# Altium integrated library Lattice CPLD ispMACH.IntLib: 663 symbols (part 13 of 48)
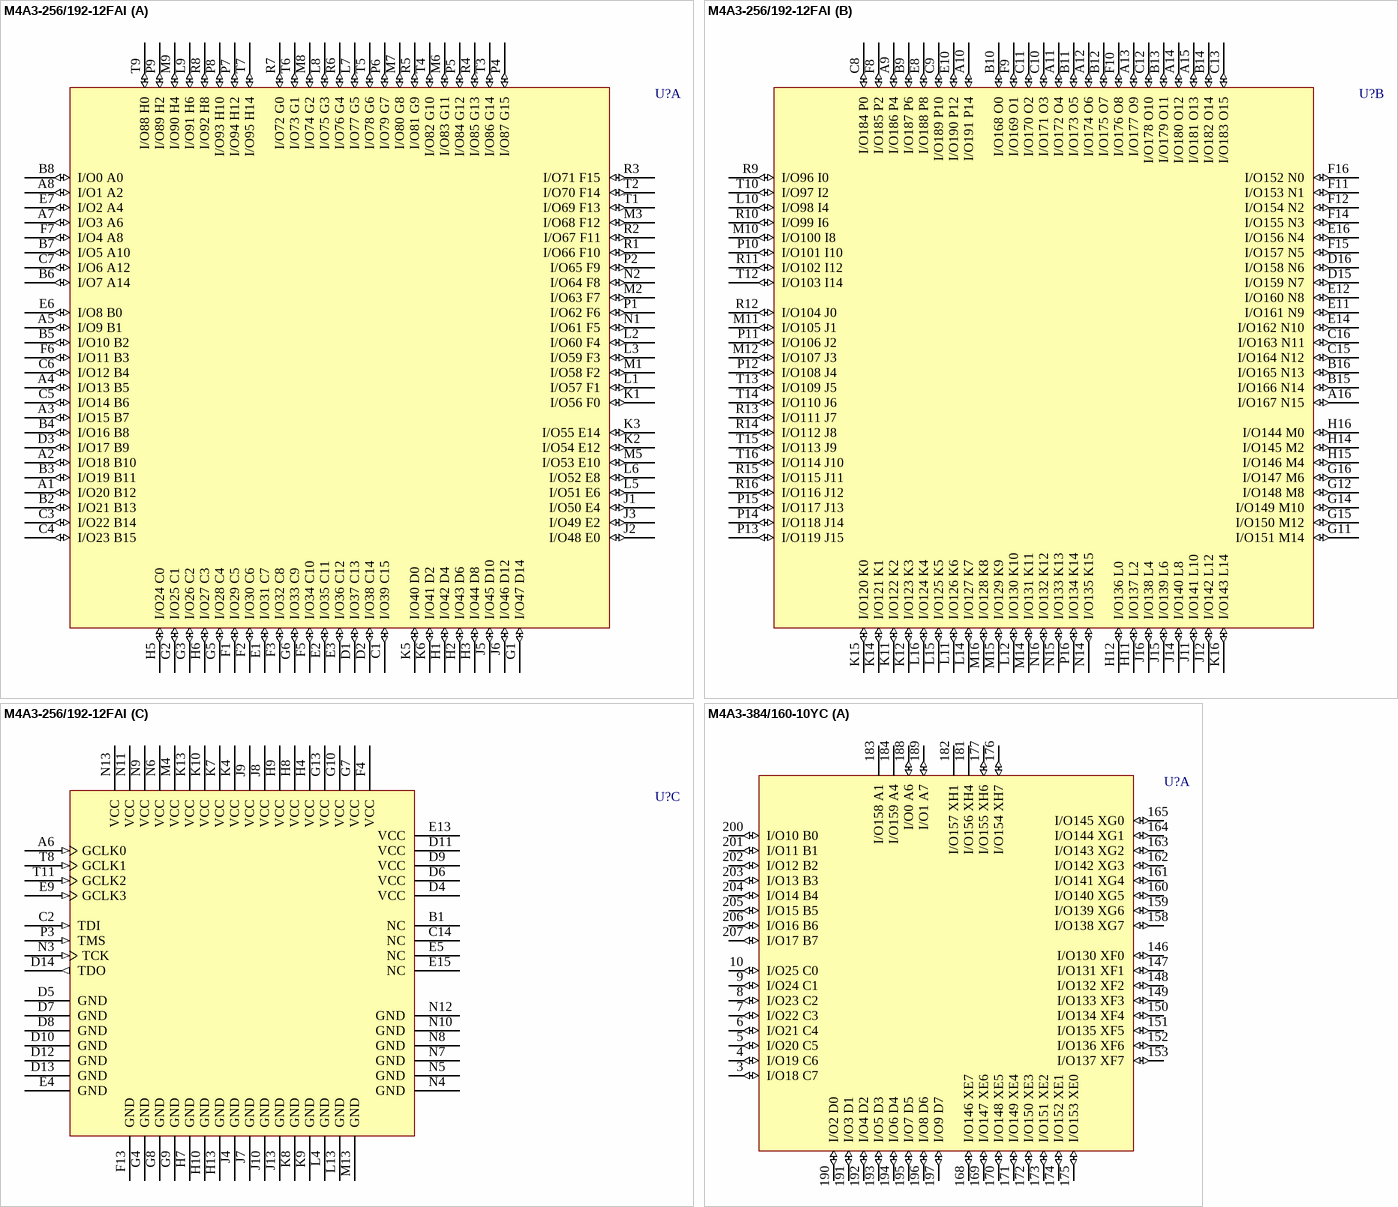
[diagram p318: symbols M4A3-256/192-12FAI to M4A3-384/160-10YC]

## M4A3-256/192-12FAI
designator U?
High-Performance EE CMOS In-System Programmable Logic; Published: 17-Jul-2002; LatestRevisionDate: 13-Apr-2006; LatestRevisionNote: IPC-7351 Footprint Added.; DatasheetVersion: Feb-2001; PackageVersion: pkg_32, Aug-2005; PackageReference: fpBGA256; Publisher: Altium Limited; PackageDescription: 256-Ball Fine Pitch Ball Grid Array (fpBGA256); Code_IPC: BGA100P16X16-256; ComponentLink1Description: Manufacturer Link; ComponentLink1URL: http://www.latticesemi.com/products/mature/index.cfm; ComponentLink2Description: Datasheet; ComponentLink2URL: http://www.latticesemi.com/account/_download.cfm?AMID=1344
footprint fpBGA256 (BGA, 256-Leads, Body 17x17mm, Pitch 1mm)
3D model M4A3-fpBGA256 (256-Ball Fine Pitch Ball Grid Array (fpBGA256))
part A pins: A1 I/O20 B12 (io), A2 I/O18 B10 (io), A3 I/O15 B7 (io), A4 I/O13 B5 (io), A5 I/O9 B1 (io), A7 I/O3 A6 (io), A8 I/O1 A2 (io), B2 I/O21 B13 (io), B3 I/O19 B11 (io), B4 I/O16 B8 (io), B5 I/O10 B2 (io), B6 I/O7 A14 (io), B7 I/O5 A10 (io), B8 I/O0 A0 (io), C1 I/O39 C15 (io), C3 I/O22 B14 (io), C4 I/O23 B15 (io), C5 I/O14 B6 (io), C6 I/O12 B4 (io), C7 I/O6 A12 (io), D1 I/O37 C13 (io), D2 I/O38 C14 (io), D3 I/O17 B9 (io), E1 I/O31 C7 (io), E2 I/O35 C11 (io), E3 I/O36 C12 (io), E6 I/O8 B0 (io), E7 I/O2 A4 (io), F1 I/O29 C5 (io), F2 I/O30 C6 (io), F3 I/O32 C8 (io), F5 I/O34 C10 (io), F6 I/O11 B3 (io), F7 I/O4 A8 (io), G1 I/O47 D14 (io), G2 I/O25 C1 (io), G3 I/O26 C2 (io), G5 I/O28 C4 (io), G6 I/O33 C9 (io), H1 I/O42 D4 (io), H2 I/O43 D6 (io), H3 I/O44 D8 (io), H5 I/O24 C0 (io), H6 I/O27 C3 (io), J1 I/O50 E4 (io), J2 I/O48 E0 (io), J3 I/O49 E2 (io), J5 I/O45 D10 (io), J6 I/O46 D12 (io), K1 I/O56 F0 (io), K2 I/O54 E12 (io), K3 I/O55 E14 (io), K5 I/O40 D0 (io), K6 I/O41 D2 (io), L1 I/O57 F1 (io), L2 I/O60 F4 (io), L3 I/O59 F3 (io), L5 I/O51 E6 (io), L6 I/O52 E8 (io), L7 I/O77 G5 (io), L8 I/O75 G3 (io), L9 I/O91 H6 (io), M1 I/O58 F2 (io), M2 I/O63 F7 (io), M3 I/O68 F12 (io), M5 I/O53 E10 (io), M6 I/O83 G11 (io), M7 I/O80 G8 (io), M8 I/O74 G2 (io), M9 I/O90 H4 (io), N1 I/O61 F5 (io), N2 I/O64 F8 (io), P1 I/O62 F6 (io), P2 I/O65 F9 (io), P4 I/O87 G15 (io), P5 I/O84 G12 (io), P6 I/O79 G7 (io), P7 I/O94 H12 (io), P8 I/O93 H10 (io), P9 I/O89 H2 (io), R1 I/O66 F10 (io), R2 I/O67 F11 (io), R3 I/O71 F15 (io), R4 I/O85 G13 (io), R5 I/O81 G9 (io), R6 I/O76 G4 (io), R7 I/O72 G0 (io), R8 I/O92 H8 (io), T1 I/O69 F13 (io), T2 I/O70 F14 (io), T3 I/O86 G14 (io), T4 I/O82 G10 (io), T5 I/O78 G6 (io), T6 I/O73 G1 (io), T7 I/O95 H14 (io), T9 I/O88 H0 (io)
part B pins: A9 I/O186 P4 (io), A10 I/O191 P14 (io), A11 I/O172 O4 (io), A12 I/O174 O6 (io), A13 I/O177 O9 (io), A14 I/O180 O12 (io), A15 I/O181 O13 (io), A16 I/O167 N15 (io), B9 I/O187 P6 (io), B10 I/O168 O0 (io), B11 I/O173 O5 (io), B12 I/O175 O7 (io), B13 I/O179 O11 (io), B14 I/O182 O14 (io), B15 I/O166 N14 (io), B16 I/O165 N13 (io), C8 I/O184 P0 (io), C9 I/O189 P10 (io), C10 I/O171 O3 (io), C11 I/O170 O2 (io), C12 I/O178 O10 (io), C13 I/O183 O15 (io), C15 I/O164 N12 (io), C16 I/O163 N11 (io), D15 I/O159 N7 (io), D16 I/O158 N6 (io), E8 I/O188 P8 (io), E10 I/O190 P12 (io), E11 I/O161 N9 (io), E12 I/O160 N8 (io), E14 I/O162 N10 (io), E16 I/O156 N4 (io), F8 I/O185 P2 (io), F9 I/O169 O1 (io), F10 I/O176 O8 (io), F11 I/O153 N1 (io), F12 I/O154 N2 (io), F14 I/O155 N3 (io), F15 I/O157 N5 (io), F16 I/O152 N0 (io), G11 I/O151 M14 (io), G12 I/O148 M8 (io), G14 I/O149 M10 (io), G15 I/O150 M12 (io), G16 I/O147 M6 (io), H11 I/O137 L2 (io), H12 I/O136 L0 (io), H14 I/O145 M2 (io), H15 I/O146 M4 (io), H16 I/O144 M0 (io), J11 I/O141 L10 (io), J12 I/O142 L12 (io), J14 I/O140 L8 (io), J15 I/O139 L6 (io), J16 I/O138 L4 (io), K11 I/O122 K2 (io), K12 I/O123 K3 (io), K14 I/O121 K1 (io), K15 I/O120 K0 (io), K16 I/O143 L14 (io), L10 I/O98 I4 (io), L11 I/O126 K6 (io), L12 I/O130 K10 (io), L14 I/O127 K7 (io), L15 I/O125 K5 (io), L16 I/O124 K4 (io), M10 I/O100 I8 (io), M11 I/O105 J1 (io), M12 I/O107 J3 (io), M14 I/O131 K11 (io), M15 I/O129 K9 (io), M16 I/O128 K8 (io), N14 I/O135 K15 (io), N15 I/O133 K13 (io), N16 I/O132 K12 (io), P10 I/O101 I10 (io), P11 I/O106 J2 (io), P12 I/O108 J4 (io), P13 I/O119 J15 (io), P14 I/O118 J14 (io), P15 I/O117 J13 (io), P16 I/O134 K14 (io), R9 I/O96 I0 (io), R10 I/O99 I6 (io), R11 I/O102 I12 (io), R12 I/O104 J0 (io), R13 I/O111 J7 (io), R14 I/O112 J8 (io), R15 I/O115 J11 (io), R16 I/O116 J12 (io), T10 I/O97 I2 (io), T12 I/O103 I14 (io), T13 I/O109 J5 (io), T14 I/O110 J6 (io), T15 I/O113 J9 (io), T16 I/O114 J10 (io)
part C pins: A6 GCLK0 (in), B1 NC, C2 TDI (in), C14 NC, D4 VCC (power), D5 GND (power), D6 VCC (power), D7 GND (power), D8 GND (power), D9 VCC (power), D10 GND (power), D11 VCC (power), D12 GND (power), D13 GND (power), D14 TDO (out), E4 GND (power), E5 NC, E9 GCLK3 (in), E13 VCC (power), E15 NC, F4 VCC (power), F13 GND (power), G4 GND (power), G7 VCC (power), G8 GND (power), G9 GND (power), G10 VCC (power), G13 VCC (power), H4 VCC (power), H7 GND (power), H8 VCC (power), H9 VCC (power), H10 GND (power), H13 GND (power), J4 GND (power), J7 GND (power), J8 VCC (power), J9 VCC (power), J10 GND (power), J13 GND (power), K4 VCC (power), K7 VCC (power), K8 GND (power), K9 GND (power), K10 VCC (power), K13 VCC (power), L4 GND (power), L13 GND (power), M4 VCC (power), M13 GND (power), N3 TCK (in), N4 GND (power), N5 GND (power), N6 VCC (power), N7 GND (power), N8 GND (power), N9 VCC (power), N10 GND (power), N11 VCC (power), N12 GND (power), N13 VCC (power), P3 TMS (in), T8 GCLK1 (in), T11 GCLK2 (in)

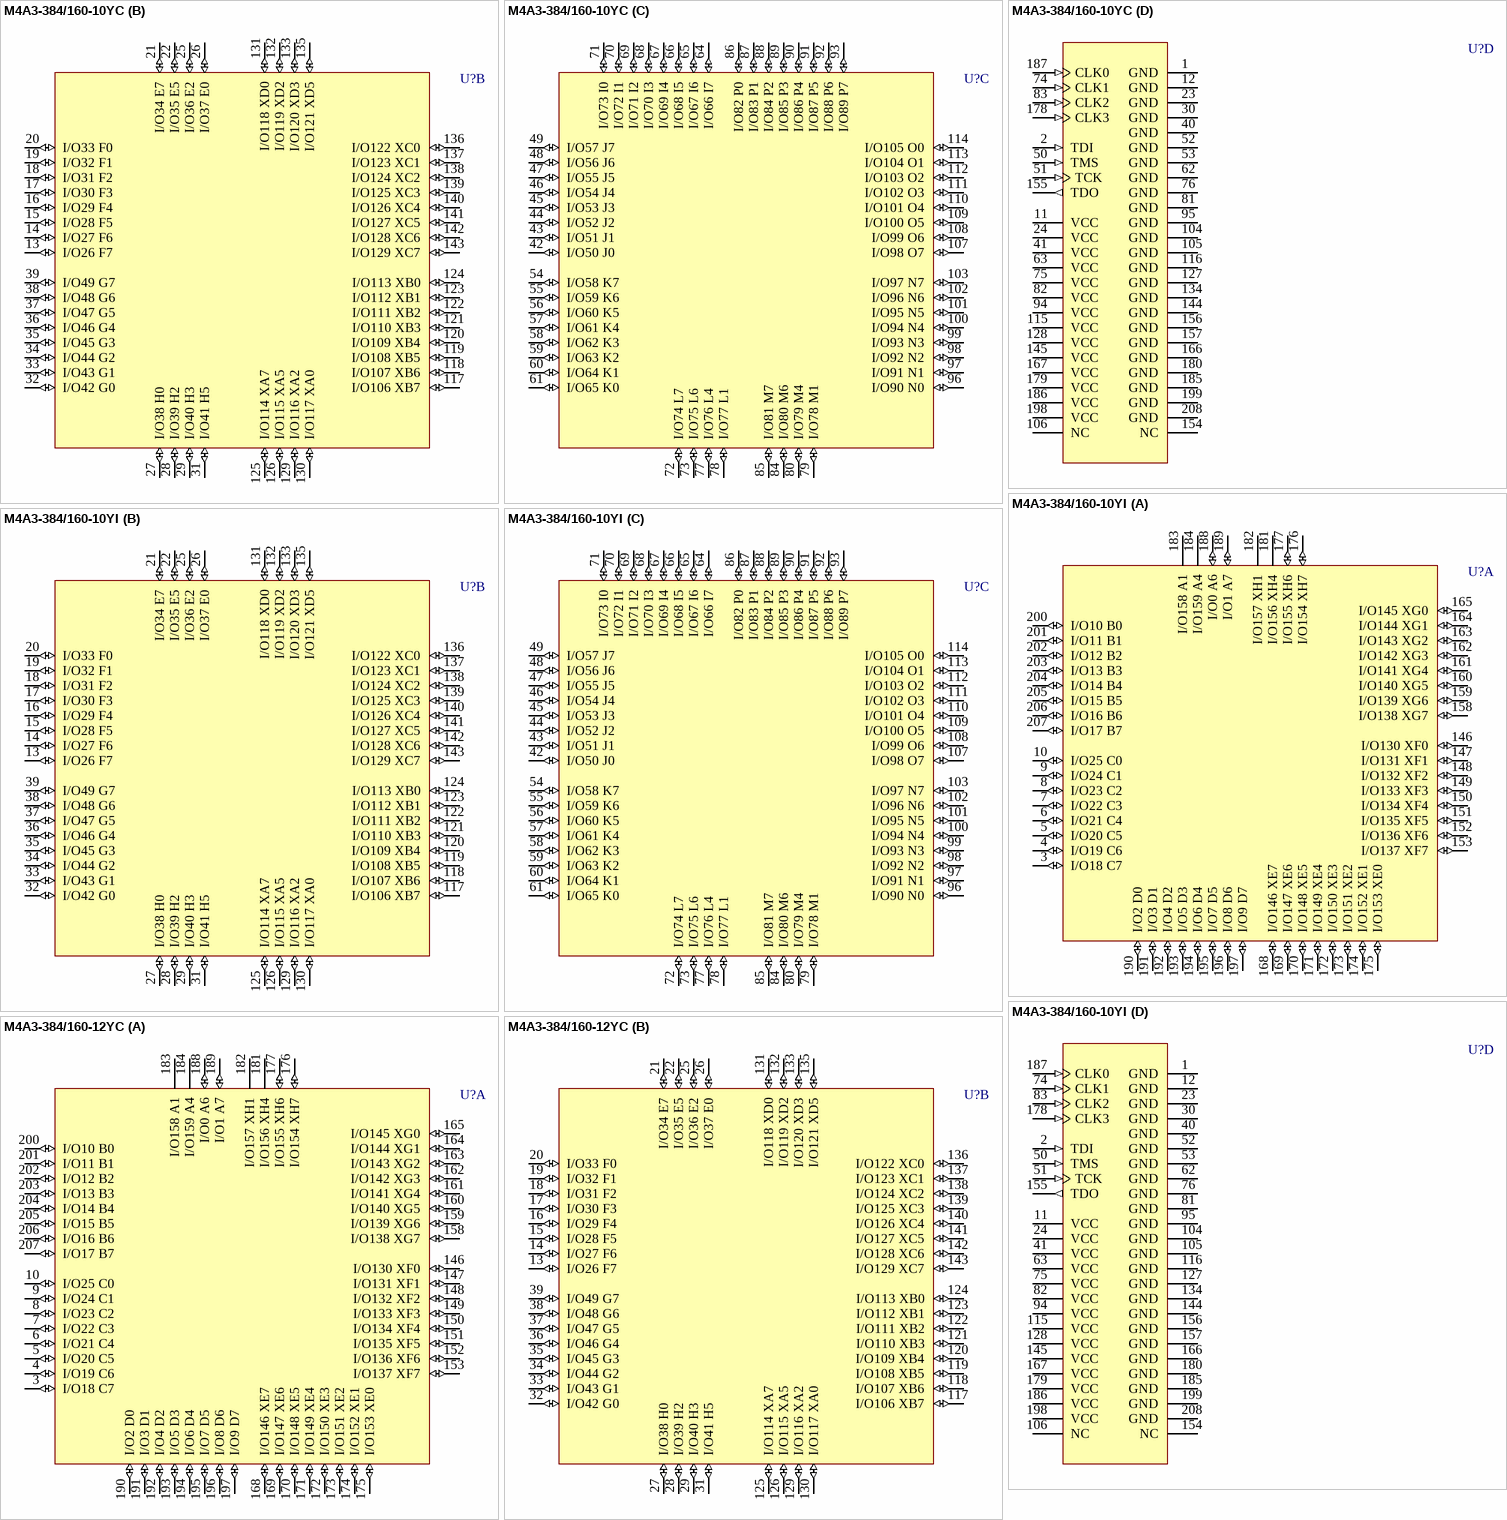
[diagram p76: symbols M4A3-384/160-10YC to M4A3-384/160-12YC]

## M4A3-384/160-10YC
designator U?
High-Performance EE CMOS In-System Programmable Logic; Published: 17-Jul-2002; LatestRevisionDate: 13-Apr-2006; LatestRevisionNote: IPC-7351 Footprint Added.; DatasheetVersion: Feb-2001; PackageVersion: pkg_32, Aug-2005; PackageReference: PQFP208; Publisher: Altium Limited; PackageDescription: 208-Pin Plastic Quad Flat Pack (PQFP208); Code_JEDEC: MO-143-FAI; ComponentLink1Description: Manufacturer Link; ComponentLink1URL: http://www.latticesemi.com/products/mature/index.cfm; ComponentLink2Description: Datasheet; ComponentLink2URL: http://www.latticesemi.com/account/_download.cfm?AMID=1344
footprint PQFP208_N (Shrink QFP, 208-Leads, Body 28x28mm, Pitch 0.5mm, IPC Medium Density)
footprint PQFP208_L (Shrink QFP, 208-Leads, Body 28x28mm, Pitch 0.5mm, IPC High Density)
footprint PQFP208_M (Shrink QFP, 208-Leads, Body 28x28mm, Pitch 0.5mm, IPC Low Density)
3D model M4A3-PQFP208 (208-Pin Plastic Quad Flat Pack (PQFP208))
part A pins: 3 I/O18 C7 (io), 4 I/O19 C6 (io), 5 I/O20 C5 (io), 6 I/O21 C4 (io), 7 I/O22 C3 (io), 8 I/O23 C2 (io), 9 I/O24 C1 (io), 10 I/O25 C0 (io), 146 I/O130 XF0 (io), 147 I/O131 XF1 (io), 148 I/O132 XF2 (io), 149 I/O133 XF3 (io), 150 I/O134 XF4 (io), 151 I/O135 XF5 (io), 152 I/O136 XF6 (io), 153 I/O137 XF7 (io), 158 I/O138 XG7 (io), 159 I/O139 XG6 (io), 160 I/O140 XG5 (io), 161 I/O141 XG4 (io), 162 I/O142 XG3 (io), 163 I/O143 XG2 (io), 164 I/O144 XG1 (io), 165 I/O145 XG0 (io), 168 I/O146 XE7 (io), 169 I/O147 XE6 (io), 170 I/O148 XE5 (io), 171 I/O149 XE4 (io), 172 I/O150 XE3 (io), 173 I/O151 XE2 (io), 174 I/O152 XE1 (io), 175 I/O153 XE0 (io), 176 I/O154 XH7 (io), 177 I/O155 XH6 (io), 181 I/O156 XH4 (power), 182 I/O157 XH1 (power), 183 I/O158 A1 (power), 184 I/O159 A4 (power), 188 I/O0 A6 (io), 189 I/O1 A7 (io), 190 I/O2 D0 (io), 191 I/O3 D1 (io), 192 I/O4 D2 (io), 193 I/O5 D3 (io), 194 I/O6 D4 (io), 195 I/O7 D5 (io), 196 I/O8 D6 (io), 197 I/O9 D7 (io), 200 I/O10 B0 (io), 201 I/O11 B1 (io), 202 I/O12 B2 (io), 203 I/O13 B3 (io), 204 I/O14 B4 (io), 205 I/O15 B5 (io), 206 I/O16 B6 (io), 207 I/O17 B7 (io)
part B pins: 13 I/O26 F7 (io), 14 I/O27 F6 (io), 15 I/O28 F5 (io), 16 I/O29 F4 (io), 17 I/O30 F3 (io), 18 I/O31 F2 (io), 19 I/O32 F1 (io), 20 I/O33 F0 (io), 21 I/O34 E7 (io), 22 I/O35 E5 (io), 25 I/O36 E2 (io), 26 I/O37 E0 (io), 27 I/O38 H0 (io), 28 I/O39 H2 (io), 29 I/O40 H3 (io), 31 I/O41 H5 (io), 32 I/O42 G0 (io), 33 I/O43 G1 (io), 34 I/O44 G2 (io), 35 I/O45 G3 (io), 36 I/O46 G4 (io), 37 I/O47 G5 (io), 38 I/O48 G6 (io), 39 I/O49 G7 (io), 117 I/O106 XB7 (io), 118 I/O107 XB6 (io), 119 I/O108 XB5 (io), 120 I/O109 XB4 (io), 121 I/O110 XB3 (io), 122 I/O111 XB2 (io), 123 I/O112 XB1 (io), 124 I/O113 XB0 (io), 125 I/O114 XA7 (io), 126 I/O115 XA5 (io), 129 I/O116 XA2 (io), 130 I/O117 XA0 (io), 131 I/O118 XD0 (io), 132 I/O119 XD2 (io), 133 I/O120 XD3 (io), 135 I/O121 XD5 (io), 136 I/O122 XC0 (io), 137 I/O123 XC1 (io), 138 I/O124 XC2 (io), 139 I/O125 XC3 (io), 140 I/O126 XC4 (io), 141 I/O127 XC5 (io), 142 I/O128 XC6 (io), 143 I/O129 XC7 (io)
part C pins: 42 I/O50 J0 (io), 43 I/O51 J1 (io), 44 I/O52 J2 (io), 45 I/O53 J3 (io), 46 I/O54 J4 (io), 47 I/O55 J5 (io), 48 I/O56 J6 (io), 49 I/O57 J7 (io), 54 I/O58 K7 (io), 55 I/O59 K6 (io), 56 I/O60 K5 (io), 57 I/O61 K4 (io), 58 I/O62 K3 (io), 59 I/O63 K2 (io), 60 I/O64 K1 (io), 61 I/O65 K0 (io), 64 I/O66 I7 (io), 65 I/O67 I6 (io), 66 I/O68 I5 (io), 67 I/O69 I4 (io), 68 I/O70 I3 (io), 69 I/O71 I2 (io), 70 I/O72 I1 (io), 71 I/O73 I0 (io), 72 I/O74 L7 (io), 73 I/O75 L6 (io), 77 I/O76 L4 (io), 78 I/O77 L1 (io), 79 I/O78 M1 (io), 80 I/O79 M4 (io), 84 I/O80 M6 (io), 85 I/O81 M7 (io), 86 I/O82 P0 (io), 87 I/O83 P1 (io), 88 I/O84 P2 (io), 89 I/O85 P3 (io), 90 I/O86 P4 (io), 91 I/O87 P5 (io), 92 I/O88 P6 (io), 93 I/O89 P7 (io), 96 I/O90 N0 (io), 97 I/O91 N1 (io), 98 I/O92 N2 (io), 99 I/O93 N3 (io), 100 I/O94 N4 (io), 101 I/O95 N5 (io), 102 I/O96 N6 (io), 103 I/O97 N7 (io), 107 I/O98 O7 (io), 108 I/O99 O6 (io), 109 I/O100 O5 (io), 110 I/O101 O4 (io), 111 I/O102 O3 (io), 112 I/O103 O2 (io), 113 I/O104 O1 (io), 114 I/O105 O0 (io)
part D pins: 1 GND (power), 2 TDI (in), 11 VCC (power), 12 GND (power), 23 GND (power), 24 VCC (power), 30 GND (power), 40 GND (power), 41 VCC (power), 50 TMS (in), 51 TCK (in), 52 GND (power), 53 GND (power), 62 GND (power), 63 VCC (power), 74 CLK1 (in), 75 VCC (power), 76 GND (power), 81 GND (power), 82 VCC (power), 83 CLK2 (in), 94 VCC (power), 95 GND (power), 104 GND (power), 105 GND (power), 106 NC, 115 VCC (power), 116 GND (power), 127 GND (power), 128 VCC (power), 134 GND (power), 144 GND (power), 145 VCC (power), 154 NC, 155 TDO (out), 156 GND (power), 157 GND (power), 166 GND (power), 167 VCC (power), 178 CLK3 (in), 179 VCC (power), 180 GND (power), 185 GND (power), 186 VCC (power), 187 CLK0 (in), 198 VCC (power), 199 GND (power), 208 GND (power)

## M4A3-384/160-10YI
designator U?
High-Performance EE CMOS In-System Programmable Logic; Published: 17-Jul-2002; LatestRevisionDate: 13-Apr-2006; LatestRevisionNote: IPC-7351 Footprint Added.; DatasheetVersion: Feb-2001; PackageVersion: pkg_32, Aug-2005; PackageReference: PQFP208; Publisher: Altium Limited; PackageDescription: 208-Pin Plastic Quad Flat Pack (PQFP208); Code_JEDEC: MO-143-FAI; ComponentLink1Description: Manufacturer Link; ComponentLink1URL: http://www.latticesemi.com/products/mature/index.cfm; ComponentLink2Description: Datasheet; ComponentLink2URL: http://www.latticesemi.com/account/_download.cfm?AMID=1344
footprint PQFP208_N (Shrink QFP, 208-Leads, Body 28x28mm, Pitch 0.5mm, IPC Medium Density)
footprint PQFP208_L (Shrink QFP, 208-Leads, Body 28x28mm, Pitch 0.5mm, IPC High Density)
footprint PQFP208_M (Shrink QFP, 208-Leads, Body 28x28mm, Pitch 0.5mm, IPC Low Density)
3D model M4A3-PQFP208 (208-Pin Plastic Quad Flat Pack (PQFP208))
part A pins: 3 I/O18 C7 (io), 4 I/O19 C6 (io), 5 I/O20 C5 (io), 6 I/O21 C4 (io), 7 I/O22 C3 (io), 8 I/O23 C2 (io), 9 I/O24 C1 (io), 10 I/O25 C0 (io), 146 I/O130 XF0 (io), 147 I/O131 XF1 (io), 148 I/O132 XF2 (io), 149 I/O133 XF3 (io), 150 I/O134 XF4 (io), 151 I/O135 XF5 (io), 152 I/O136 XF6 (io), 153 I/O137 XF7 (io), 158 I/O138 XG7 (io), 159 I/O139 XG6 (io), 160 I/O140 XG5 (io), 161 I/O141 XG4 (io), 162 I/O142 XG3 (io), 163 I/O143 XG2 (io), 164 I/O144 XG1 (io), 165 I/O145 XG0 (io), 168 I/O146 XE7 (io), 169 I/O147 XE6 (io), 170 I/O148 XE5 (io), 171 I/O149 XE4 (io), 172 I/O150 XE3 (io), 173 I/O151 XE2 (io), 174 I/O152 XE1 (io), 175 I/O153 XE0 (io), 176 I/O154 XH7 (io), 177 I/O155 XH6 (io), 181 I/O156 XH4 (power), 182 I/O157 XH1 (power), 183 I/O158 A1 (power), 184 I/O159 A4 (power), 188 I/O0 A6 (io), 189 I/O1 A7 (io), 190 I/O2 D0 (io), 191 I/O3 D1 (io), 192 I/O4 D2 (io), 193 I/O5 D3 (io), 194 I/O6 D4 (io), 195 I/O7 D5 (io), 196 I/O8 D6 (io), 197 I/O9 D7 (io), 200 I/O10 B0 (io), 201 I/O11 B1 (io), 202 I/O12 B2 (io), 203 I/O13 B3 (io), 204 I/O14 B4 (io), 205 I/O15 B5 (io), 206 I/O16 B6 (io), 207 I/O17 B7 (io)
part B pins: 13 I/O26 F7 (io), 14 I/O27 F6 (io), 15 I/O28 F5 (io), 16 I/O29 F4 (io), 17 I/O30 F3 (io), 18 I/O31 F2 (io), 19 I/O32 F1 (io), 20 I/O33 F0 (io), 21 I/O34 E7 (io), 22 I/O35 E5 (io), 25 I/O36 E2 (io), 26 I/O37 E0 (io), 27 I/O38 H0 (io), 28 I/O39 H2 (io), 29 I/O40 H3 (io), 31 I/O41 H5 (io), 32 I/O42 G0 (io), 33 I/O43 G1 (io), 34 I/O44 G2 (io), 35 I/O45 G3 (io), 36 I/O46 G4 (io), 37 I/O47 G5 (io), 38 I/O48 G6 (io), 39 I/O49 G7 (io), 117 I/O106 XB7 (io), 118 I/O107 XB6 (io), 119 I/O108 XB5 (io), 120 I/O109 XB4 (io), 121 I/O110 XB3 (io), 122 I/O111 XB2 (io), 123 I/O112 XB1 (io), 124 I/O113 XB0 (io), 125 I/O114 XA7 (io), 126 I/O115 XA5 (io), 129 I/O116 XA2 (io), 130 I/O117 XA0 (io), 131 I/O118 XD0 (io), 132 I/O119 XD2 (io), 133 I/O120 XD3 (io), 135 I/O121 XD5 (io), 136 I/O122 XC0 (io), 137 I/O123 XC1 (io), 138 I/O124 XC2 (io), 139 I/O125 XC3 (io), 140 I/O126 XC4 (io), 141 I/O127 XC5 (io), 142 I/O128 XC6 (io), 143 I/O129 XC7 (io)
part C pins: 42 I/O50 J0 (io), 43 I/O51 J1 (io), 44 I/O52 J2 (io), 45 I/O53 J3 (io), 46 I/O54 J4 (io), 47 I/O55 J5 (io), 48 I/O56 J6 (io), 49 I/O57 J7 (io), 54 I/O58 K7 (io), 55 I/O59 K6 (io), 56 I/O60 K5 (io), 57 I/O61 K4 (io), 58 I/O62 K3 (io), 59 I/O63 K2 (io), 60 I/O64 K1 (io), 61 I/O65 K0 (io), 64 I/O66 I7 (io), 65 I/O67 I6 (io), 66 I/O68 I5 (io), 67 I/O69 I4 (io), 68 I/O70 I3 (io), 69 I/O71 I2 (io), 70 I/O72 I1 (io), 71 I/O73 I0 (io), 72 I/O74 L7 (io), 73 I/O75 L6 (io), 77 I/O76 L4 (io), 78 I/O77 L1 (io), 79 I/O78 M1 (io), 80 I/O79 M4 (io), 84 I/O80 M6 (io), 85 I/O81 M7 (io), 86 I/O82 P0 (io), 87 I/O83 P1 (io), 88 I/O84 P2 (io), 89 I/O85 P3 (io), 90 I/O86 P4 (io), 91 I/O87 P5 (io), 92 I/O88 P6 (io), 93 I/O89 P7 (io), 96 I/O90 N0 (io), 97 I/O91 N1 (io), 98 I/O92 N2 (io), 99 I/O93 N3 (io), 100 I/O94 N4 (io), 101 I/O95 N5 (io), 102 I/O96 N6 (io), 103 I/O97 N7 (io), 107 I/O98 O7 (io), 108 I/O99 O6 (io), 109 I/O100 O5 (io), 110 I/O101 O4 (io), 111 I/O102 O3 (io), 112 I/O103 O2 (io), 113 I/O104 O1 (io), 114 I/O105 O0 (io)
part D pins: 1 GND (power), 2 TDI (in), 11 VCC (power), 12 GND (power), 23 GND (power), 24 VCC (power), 30 GND (power), 40 GND (power), 41 VCC (power), 50 TMS (in), 51 TCK (in), 52 GND (power), 53 GND (power), 62 GND (power), 63 VCC (power), 74 CLK1 (in), 75 VCC (power), 76 GND (power), 81 GND (power), 82 VCC (power), 83 CLK2 (in), 94 VCC (power), 95 GND (power), 104 GND (power), 105 GND (power), 106 NC, 115 VCC (power), 116 GND (power), 127 GND (power), 128 VCC (power), 134 GND (power), 144 GND (power), 145 VCC (power), 154 NC, 155 TDO (out), 156 GND (power), 157 GND (power), 166 GND (power), 167 VCC (power), 178 CLK3 (in), 179 VCC (power), 180 GND (power), 185 GND (power), 186 VCC (power), 187 CLK0 (in), 198 VCC (power), 199 GND (power), 208 GND (power)

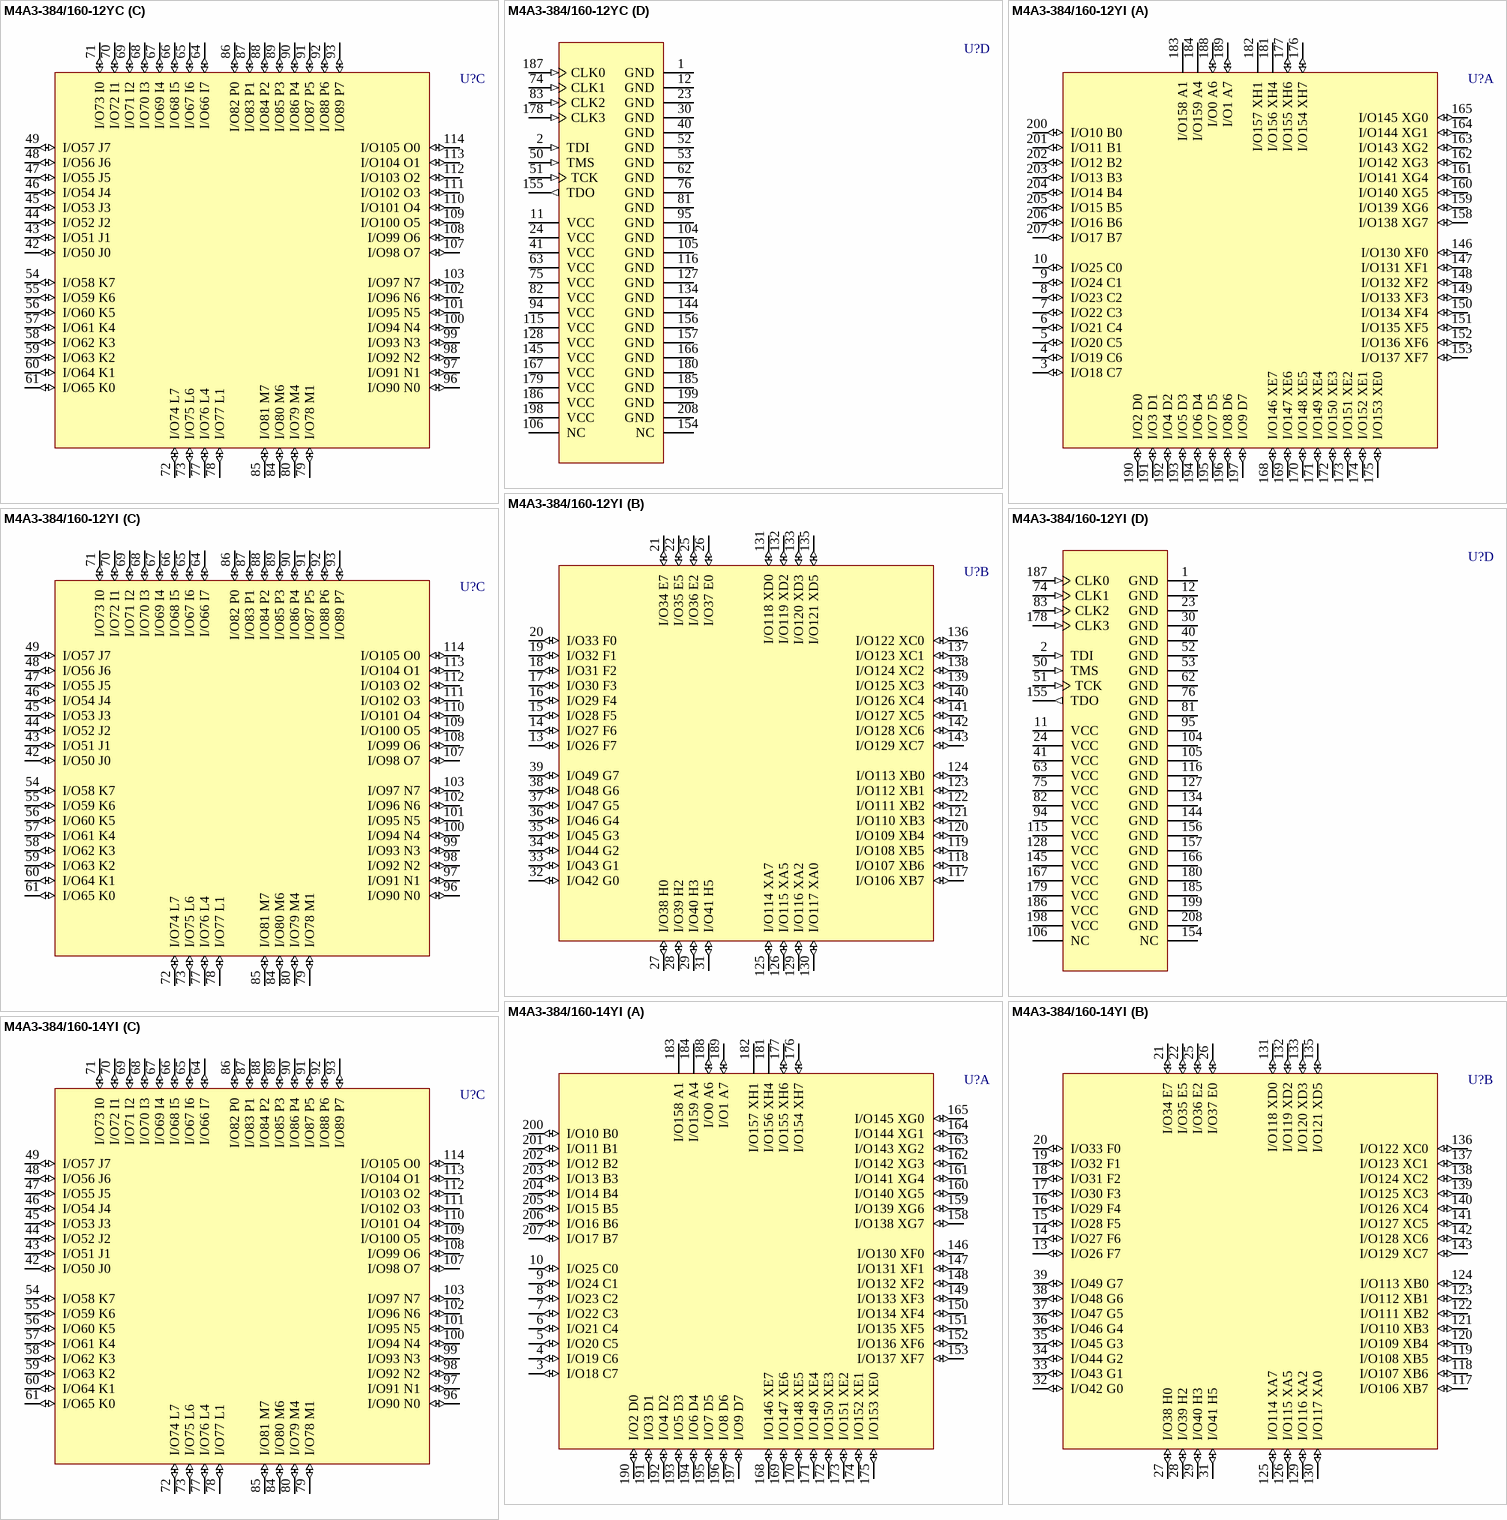
[diagram p77: symbols M4A3-384/160-12YC to M4A3-384/160-14YI]

## M4A3-384/160-12YC
designator U?
High-Performance EE CMOS In-System Programmable Logic; Published: 17-Jul-2002; LatestRevisionDate: 13-Apr-2006; LatestRevisionNote: IPC-7351 Footprint Added.; DatasheetVersion: Feb-2001; PackageVersion: pkg_32, Aug-2005; PackageReference: PQFP208; Publisher: Altium Limited; PackageDescription: 208-Pin Plastic Quad Flat Pack (PQFP208); Code_JEDEC: MO-143-FAI; ComponentLink1Description: Manufacturer Link; ComponentLink1URL: http://www.latticesemi.com/products/mature/index.cfm; ComponentLink2Description: Datasheet; ComponentLink2URL: http://www.latticesemi.com/account/_download.cfm?AMID=1344
footprint PQFP208_N (Shrink QFP, 208-Leads, Body 28x28mm, Pitch 0.5mm, IPC Medium Density)
footprint PQFP208_L (Shrink QFP, 208-Leads, Body 28x28mm, Pitch 0.5mm, IPC High Density)
footprint PQFP208_M (Shrink QFP, 208-Leads, Body 28x28mm, Pitch 0.5mm, IPC Low Density)
3D model M4A3-PQFP208 (208-Pin Plastic Quad Flat Pack (PQFP208))
part A pins: 3 I/O18 C7 (io), 4 I/O19 C6 (io), 5 I/O20 C5 (io), 6 I/O21 C4 (io), 7 I/O22 C3 (io), 8 I/O23 C2 (io), 9 I/O24 C1 (io), 10 I/O25 C0 (io), 146 I/O130 XF0 (io), 147 I/O131 XF1 (io), 148 I/O132 XF2 (io), 149 I/O133 XF3 (io), 150 I/O134 XF4 (io), 151 I/O135 XF5 (io), 152 I/O136 XF6 (io), 153 I/O137 XF7 (io), 158 I/O138 XG7 (io), 159 I/O139 XG6 (io), 160 I/O140 XG5 (io), 161 I/O141 XG4 (io), 162 I/O142 XG3 (io), 163 I/O143 XG2 (io), 164 I/O144 XG1 (io), 165 I/O145 XG0 (io), 168 I/O146 XE7 (io), 169 I/O147 XE6 (io), 170 I/O148 XE5 (io), 171 I/O149 XE4 (io), 172 I/O150 XE3 (io), 173 I/O151 XE2 (io), 174 I/O152 XE1 (io), 175 I/O153 XE0 (io), 176 I/O154 XH7 (io), 177 I/O155 XH6 (io), 181 I/O156 XH4 (power), 182 I/O157 XH1 (power), 183 I/O158 A1 (power), 184 I/O159 A4 (power), 188 I/O0 A6 (io), 189 I/O1 A7 (io), 190 I/O2 D0 (io), 191 I/O3 D1 (io), 192 I/O4 D2 (io), 193 I/O5 D3 (io), 194 I/O6 D4 (io), 195 I/O7 D5 (io), 196 I/O8 D6 (io), 197 I/O9 D7 (io), 200 I/O10 B0 (io), 201 I/O11 B1 (io), 202 I/O12 B2 (io), 203 I/O13 B3 (io), 204 I/O14 B4 (io), 205 I/O15 B5 (io), 206 I/O16 B6 (io), 207 I/O17 B7 (io)
part B pins: 13 I/O26 F7 (io), 14 I/O27 F6 (io), 15 I/O28 F5 (io), 16 I/O29 F4 (io), 17 I/O30 F3 (io), 18 I/O31 F2 (io), 19 I/O32 F1 (io), 20 I/O33 F0 (io), 21 I/O34 E7 (io), 22 I/O35 E5 (io), 25 I/O36 E2 (io), 26 I/O37 E0 (io), 27 I/O38 H0 (io), 28 I/O39 H2 (io), 29 I/O40 H3 (io), 31 I/O41 H5 (io), 32 I/O42 G0 (io), 33 I/O43 G1 (io), 34 I/O44 G2 (io), 35 I/O45 G3 (io), 36 I/O46 G4 (io), 37 I/O47 G5 (io), 38 I/O48 G6 (io), 39 I/O49 G7 (io), 117 I/O106 XB7 (io), 118 I/O107 XB6 (io), 119 I/O108 XB5 (io), 120 I/O109 XB4 (io), 121 I/O110 XB3 (io), 122 I/O111 XB2 (io), 123 I/O112 XB1 (io), 124 I/O113 XB0 (io), 125 I/O114 XA7 (io), 126 I/O115 XA5 (io), 129 I/O116 XA2 (io), 130 I/O117 XA0 (io), 131 I/O118 XD0 (io), 132 I/O119 XD2 (io), 133 I/O120 XD3 (io), 135 I/O121 XD5 (io), 136 I/O122 XC0 (io), 137 I/O123 XC1 (io), 138 I/O124 XC2 (io), 139 I/O125 XC3 (io), 140 I/O126 XC4 (io), 141 I/O127 XC5 (io), 142 I/O128 XC6 (io), 143 I/O129 XC7 (io)
part C pins: 42 I/O50 J0 (io), 43 I/O51 J1 (io), 44 I/O52 J2 (io), 45 I/O53 J3 (io), 46 I/O54 J4 (io), 47 I/O55 J5 (io), 48 I/O56 J6 (io), 49 I/O57 J7 (io), 54 I/O58 K7 (io), 55 I/O59 K6 (io), 56 I/O60 K5 (io), 57 I/O61 K4 (io), 58 I/O62 K3 (io), 59 I/O63 K2 (io), 60 I/O64 K1 (io), 61 I/O65 K0 (io), 64 I/O66 I7 (io), 65 I/O67 I6 (io), 66 I/O68 I5 (io), 67 I/O69 I4 (io), 68 I/O70 I3 (io), 69 I/O71 I2 (io), 70 I/O72 I1 (io), 71 I/O73 I0 (io), 72 I/O74 L7 (io), 73 I/O75 L6 (io), 77 I/O76 L4 (io), 78 I/O77 L1 (io), 79 I/O78 M1 (io), 80 I/O79 M4 (io), 84 I/O80 M6 (io), 85 I/O81 M7 (io), 86 I/O82 P0 (io), 87 I/O83 P1 (io), 88 I/O84 P2 (io), 89 I/O85 P3 (io), 90 I/O86 P4 (io), 91 I/O87 P5 (io), 92 I/O88 P6 (io), 93 I/O89 P7 (io), 96 I/O90 N0 (io), 97 I/O91 N1 (io), 98 I/O92 N2 (io), 99 I/O93 N3 (io), 100 I/O94 N4 (io), 101 I/O95 N5 (io), 102 I/O96 N6 (io), 103 I/O97 N7 (io), 107 I/O98 O7 (io), 108 I/O99 O6 (io), 109 I/O100 O5 (io), 110 I/O101 O4 (io), 111 I/O102 O3 (io), 112 I/O103 O2 (io), 113 I/O104 O1 (io), 114 I/O105 O0 (io)
part D pins: 1 GND (power), 2 TDI (in), 11 VCC (power), 12 GND (power), 23 GND (power), 24 VCC (power), 30 GND (power), 40 GND (power), 41 VCC (power), 50 TMS (in), 51 TCK (in), 52 GND (power), 53 GND (power), 62 GND (power), 63 VCC (power), 74 CLK1 (in), 75 VCC (power), 76 GND (power), 81 GND (power), 82 VCC (power), 83 CLK2 (in), 94 VCC (power), 95 GND (power), 104 GND (power), 105 GND (power), 106 NC, 115 VCC (power), 116 GND (power), 127 GND (power), 128 VCC (power), 134 GND (power), 144 GND (power), 145 VCC (power), 154 NC, 155 TDO (out), 156 GND (power), 157 GND (power), 166 GND (power), 167 VCC (power), 178 CLK3 (in), 179 VCC (power), 180 GND (power), 185 GND (power), 186 VCC (power), 187 CLK0 (in), 198 VCC (power), 199 GND (power), 208 GND (power)

## M4A3-384/160-12YI
designator U?
High-Performance EE CMOS In-System Programmable Logic; Published: 17-Jul-2002; LatestRevisionDate: 13-Apr-2006; LatestRevisionNote: IPC-7351 Footprint Added.; DatasheetVersion: Feb-2001; PackageVersion: pkg_32, Aug-2005; PackageReference: PQFP208; Publisher: Altium Limited; PackageDescription: 208-Pin Plastic Quad Flat Pack (PQFP208); Code_JEDEC: MO-143-FAI; ComponentLink1Description: Manufacturer Link; ComponentLink1URL: http://www.latticesemi.com/products/mature/index.cfm; ComponentLink2Description: Datasheet; ComponentLink2URL: http://www.latticesemi.com/account/_download.cfm?AMID=1344
footprint PQFP208_N (Shrink QFP, 208-Leads, Body 28x28mm, Pitch 0.5mm, IPC Medium Density)
footprint PQFP208_L (Shrink QFP, 208-Leads, Body 28x28mm, Pitch 0.5mm, IPC High Density)
footprint PQFP208_M (Shrink QFP, 208-Leads, Body 28x28mm, Pitch 0.5mm, IPC Low Density)
3D model M4A3-PQFP208 (208-Pin Plastic Quad Flat Pack (PQFP208))
part A pins: 3 I/O18 C7 (io), 4 I/O19 C6 (io), 5 I/O20 C5 (io), 6 I/O21 C4 (io), 7 I/O22 C3 (io), 8 I/O23 C2 (io), 9 I/O24 C1 (io), 10 I/O25 C0 (io), 146 I/O130 XF0 (io), 147 I/O131 XF1 (io), 148 I/O132 XF2 (io), 149 I/O133 XF3 (io), 150 I/O134 XF4 (io), 151 I/O135 XF5 (io), 152 I/O136 XF6 (io), 153 I/O137 XF7 (io), 158 I/O138 XG7 (io), 159 I/O139 XG6 (io), 160 I/O140 XG5 (io), 161 I/O141 XG4 (io), 162 I/O142 XG3 (io), 163 I/O143 XG2 (io), 164 I/O144 XG1 (io), 165 I/O145 XG0 (io), 168 I/O146 XE7 (io), 169 I/O147 XE6 (io), 170 I/O148 XE5 (io), 171 I/O149 XE4 (io), 172 I/O150 XE3 (io), 173 I/O151 XE2 (io), 174 I/O152 XE1 (io), 175 I/O153 XE0 (io), 176 I/O154 XH7 (io), 177 I/O155 XH6 (io), 181 I/O156 XH4 (power), 182 I/O157 XH1 (power), 183 I/O158 A1 (power), 184 I/O159 A4 (power), 188 I/O0 A6 (io), 189 I/O1 A7 (io), 190 I/O2 D0 (io), 191 I/O3 D1 (io), 192 I/O4 D2 (io), 193 I/O5 D3 (io), 194 I/O6 D4 (io), 195 I/O7 D5 (io), 196 I/O8 D6 (io), 197 I/O9 D7 (io), 200 I/O10 B0 (io), 201 I/O11 B1 (io), 202 I/O12 B2 (io), 203 I/O13 B3 (io), 204 I/O14 B4 (io), 205 I/O15 B5 (io), 206 I/O16 B6 (io), 207 I/O17 B7 (io)
part B pins: 13 I/O26 F7 (io), 14 I/O27 F6 (io), 15 I/O28 F5 (io), 16 I/O29 F4 (io), 17 I/O30 F3 (io), 18 I/O31 F2 (io), 19 I/O32 F1 (io), 20 I/O33 F0 (io), 21 I/O34 E7 (io), 22 I/O35 E5 (io), 25 I/O36 E2 (io), 26 I/O37 E0 (io), 27 I/O38 H0 (io), 28 I/O39 H2 (io), 29 I/O40 H3 (io), 31 I/O41 H5 (io), 32 I/O42 G0 (io), 33 I/O43 G1 (io), 34 I/O44 G2 (io), 35 I/O45 G3 (io), 36 I/O46 G4 (io), 37 I/O47 G5 (io), 38 I/O48 G6 (io), 39 I/O49 G7 (io), 117 I/O106 XB7 (io), 118 I/O107 XB6 (io), 119 I/O108 XB5 (io), 120 I/O109 XB4 (io), 121 I/O110 XB3 (io), 122 I/O111 XB2 (io), 123 I/O112 XB1 (io), 124 I/O113 XB0 (io), 125 I/O114 XA7 (io), 126 I/O115 XA5 (io), 129 I/O116 XA2 (io), 130 I/O117 XA0 (io), 131 I/O118 XD0 (io), 132 I/O119 XD2 (io), 133 I/O120 XD3 (io), 135 I/O121 XD5 (io), 136 I/O122 XC0 (io), 137 I/O123 XC1 (io), 138 I/O124 XC2 (io), 139 I/O125 XC3 (io), 140 I/O126 XC4 (io), 141 I/O127 XC5 (io), 142 I/O128 XC6 (io), 143 I/O129 XC7 (io)
part C pins: 42 I/O50 J0 (io), 43 I/O51 J1 (io), 44 I/O52 J2 (io), 45 I/O53 J3 (io), 46 I/O54 J4 (io), 47 I/O55 J5 (io), 48 I/O56 J6 (io), 49 I/O57 J7 (io), 54 I/O58 K7 (io), 55 I/O59 K6 (io), 56 I/O60 K5 (io), 57 I/O61 K4 (io), 58 I/O62 K3 (io), 59 I/O63 K2 (io), 60 I/O64 K1 (io), 61 I/O65 K0 (io), 64 I/O66 I7 (io), 65 I/O67 I6 (io), 66 I/O68 I5 (io), 67 I/O69 I4 (io), 68 I/O70 I3 (io), 69 I/O71 I2 (io), 70 I/O72 I1 (io), 71 I/O73 I0 (io), 72 I/O74 L7 (io), 73 I/O75 L6 (io), 77 I/O76 L4 (io), 78 I/O77 L1 (io), 79 I/O78 M1 (io), 80 I/O79 M4 (io), 84 I/O80 M6 (io), 85 I/O81 M7 (io), 86 I/O82 P0 (io), 87 I/O83 P1 (io), 88 I/O84 P2 (io), 89 I/O85 P3 (io), 90 I/O86 P4 (io), 91 I/O87 P5 (io), 92 I/O88 P6 (io), 93 I/O89 P7 (io), 96 I/O90 N0 (io), 97 I/O91 N1 (io), 98 I/O92 N2 (io), 99 I/O93 N3 (io), 100 I/O94 N4 (io), 101 I/O95 N5 (io), 102 I/O96 N6 (io), 103 I/O97 N7 (io), 107 I/O98 O7 (io), 108 I/O99 O6 (io), 109 I/O100 O5 (io), 110 I/O101 O4 (io), 111 I/O102 O3 (io), 112 I/O103 O2 (io), 113 I/O104 O1 (io), 114 I/O105 O0 (io)
part D pins: 1 GND (power), 2 TDI (in), 11 VCC (power), 12 GND (power), 23 GND (power), 24 VCC (power), 30 GND (power), 40 GND (power), 41 VCC (power), 50 TMS (in), 51 TCK (in), 52 GND (power), 53 GND (power), 62 GND (power), 63 VCC (power), 74 CLK1 (in), 75 VCC (power), 76 GND (power), 81 GND (power), 82 VCC (power), 83 CLK2 (in), 94 VCC (power), 95 GND (power), 104 GND (power), 105 GND (power), 106 NC, 115 VCC (power), 116 GND (power), 127 GND (power), 128 VCC (power), 134 GND (power), 144 GND (power), 145 VCC (power), 154 NC, 155 TDO (out), 156 GND (power), 157 GND (power), 166 GND (power), 167 VCC (power), 178 CLK3 (in), 179 VCC (power), 180 GND (power), 185 GND (power), 186 VCC (power), 187 CLK0 (in), 198 VCC (power), 199 GND (power), 208 GND (power)

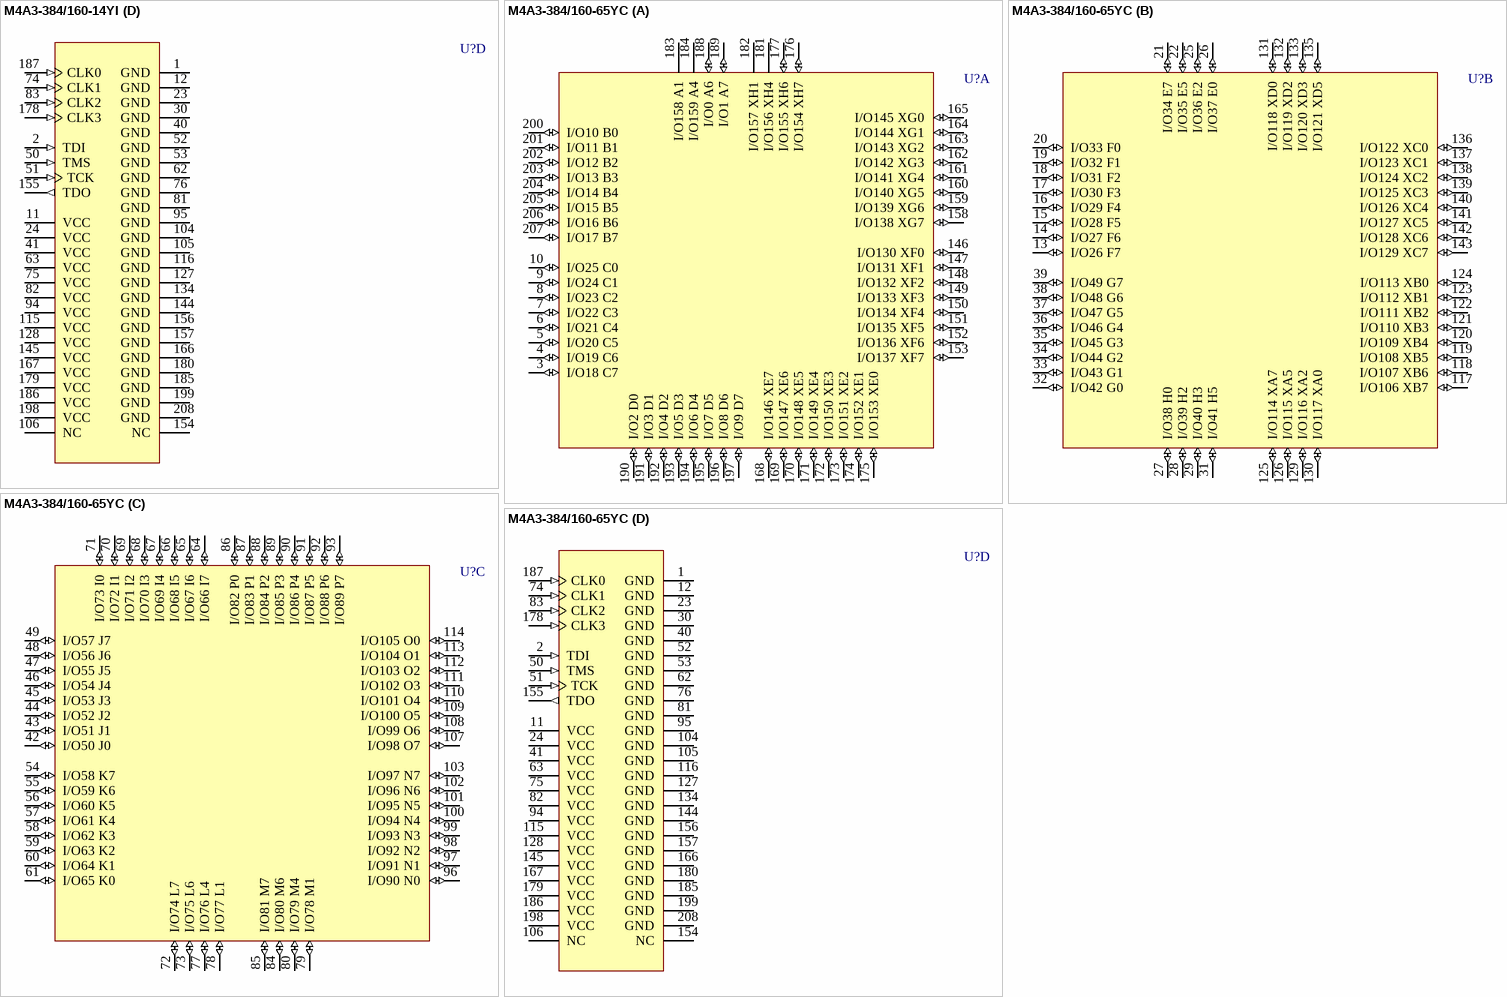
[diagram p78: symbols M4A3-384/160-14YI to M4A3-384/160-65YC]

## M4A3-384/160-14YI
designator U?
High-Performance EE CMOS In-System Programmable Logic; Published: 17-Jul-2002; LatestRevisionDate: 13-Apr-2006; LatestRevisionNote: IPC-7351 Footprint Added.; DatasheetVersion: Feb-2001; PackageVersion: pkg_32, Aug-2005; PackageReference: PQFP208; Publisher: Altium Limited; PackageDescription: 208-Pin Plastic Quad Flat Pack (PQFP208); Code_JEDEC: MO-143-FAI; ComponentLink1Description: Manufacturer Link; ComponentLink1URL: http://www.latticesemi.com/products/mature/index.cfm; ComponentLink2Description: Datasheet; ComponentLink2URL: http://www.latticesemi.com/account/_download.cfm?AMID=1344
footprint PQFP208_N (Shrink QFP, 208-Leads, Body 28x28mm, Pitch 0.5mm, IPC Medium Density)
footprint PQFP208_L (Shrink QFP, 208-Leads, Body 28x28mm, Pitch 0.5mm, IPC High Density)
footprint PQFP208_M (Shrink QFP, 208-Leads, Body 28x28mm, Pitch 0.5mm, IPC Low Density)
3D model M4A3-PQFP208 (208-Pin Plastic Quad Flat Pack (PQFP208))
part A pins: 3 I/O18 C7 (io), 4 I/O19 C6 (io), 5 I/O20 C5 (io), 6 I/O21 C4 (io), 7 I/O22 C3 (io), 8 I/O23 C2 (io), 9 I/O24 C1 (io), 10 I/O25 C0 (io), 146 I/O130 XF0 (io), 147 I/O131 XF1 (io), 148 I/O132 XF2 (io), 149 I/O133 XF3 (io), 150 I/O134 XF4 (io), 151 I/O135 XF5 (io), 152 I/O136 XF6 (io), 153 I/O137 XF7 (io), 158 I/O138 XG7 (io), 159 I/O139 XG6 (io), 160 I/O140 XG5 (io), 161 I/O141 XG4 (io), 162 I/O142 XG3 (io), 163 I/O143 XG2 (io), 164 I/O144 XG1 (io), 165 I/O145 XG0 (io), 168 I/O146 XE7 (io), 169 I/O147 XE6 (io), 170 I/O148 XE5 (io), 171 I/O149 XE4 (io), 172 I/O150 XE3 (io), 173 I/O151 XE2 (io), 174 I/O152 XE1 (io), 175 I/O153 XE0 (io), 176 I/O154 XH7 (io), 177 I/O155 XH6 (io), 181 I/O156 XH4 (power), 182 I/O157 XH1 (power), 183 I/O158 A1 (power), 184 I/O159 A4 (power), 188 I/O0 A6 (io), 189 I/O1 A7 (io), 190 I/O2 D0 (io), 191 I/O3 D1 (io), 192 I/O4 D2 (io), 193 I/O5 D3 (io), 194 I/O6 D4 (io), 195 I/O7 D5 (io), 196 I/O8 D6 (io), 197 I/O9 D7 (io), 200 I/O10 B0 (io), 201 I/O11 B1 (io), 202 I/O12 B2 (io), 203 I/O13 B3 (io), 204 I/O14 B4 (io), 205 I/O15 B5 (io), 206 I/O16 B6 (io), 207 I/O17 B7 (io)
part B pins: 13 I/O26 F7 (io), 14 I/O27 F6 (io), 15 I/O28 F5 (io), 16 I/O29 F4 (io), 17 I/O30 F3 (io), 18 I/O31 F2 (io), 19 I/O32 F1 (io), 20 I/O33 F0 (io), 21 I/O34 E7 (io), 22 I/O35 E5 (io), 25 I/O36 E2 (io), 26 I/O37 E0 (io), 27 I/O38 H0 (io), 28 I/O39 H2 (io), 29 I/O40 H3 (io), 31 I/O41 H5 (io), 32 I/O42 G0 (io), 33 I/O43 G1 (io), 34 I/O44 G2 (io), 35 I/O45 G3 (io), 36 I/O46 G4 (io), 37 I/O47 G5 (io), 38 I/O48 G6 (io), 39 I/O49 G7 (io), 117 I/O106 XB7 (io), 118 I/O107 XB6 (io), 119 I/O108 XB5 (io), 120 I/O109 XB4 (io), 121 I/O110 XB3 (io), 122 I/O111 XB2 (io), 123 I/O112 XB1 (io), 124 I/O113 XB0 (io), 125 I/O114 XA7 (io), 126 I/O115 XA5 (io), 129 I/O116 XA2 (io), 130 I/O117 XA0 (io), 131 I/O118 XD0 (io), 132 I/O119 XD2 (io), 133 I/O120 XD3 (io), 135 I/O121 XD5 (io), 136 I/O122 XC0 (io), 137 I/O123 XC1 (io), 138 I/O124 XC2 (io), 139 I/O125 XC3 (io), 140 I/O126 XC4 (io), 141 I/O127 XC5 (io), 142 I/O128 XC6 (io), 143 I/O129 XC7 (io)
part C pins: 42 I/O50 J0 (io), 43 I/O51 J1 (io), 44 I/O52 J2 (io), 45 I/O53 J3 (io), 46 I/O54 J4 (io), 47 I/O55 J5 (io), 48 I/O56 J6 (io), 49 I/O57 J7 (io), 54 I/O58 K7 (io), 55 I/O59 K6 (io), 56 I/O60 K5 (io), 57 I/O61 K4 (io), 58 I/O62 K3 (io), 59 I/O63 K2 (io), 60 I/O64 K1 (io), 61 I/O65 K0 (io), 64 I/O66 I7 (io), 65 I/O67 I6 (io), 66 I/O68 I5 (io), 67 I/O69 I4 (io), 68 I/O70 I3 (io), 69 I/O71 I2 (io), 70 I/O72 I1 (io), 71 I/O73 I0 (io), 72 I/O74 L7 (io), 73 I/O75 L6 (io), 77 I/O76 L4 (io), 78 I/O77 L1 (io), 79 I/O78 M1 (io), 80 I/O79 M4 (io), 84 I/O80 M6 (io), 85 I/O81 M7 (io), 86 I/O82 P0 (io), 87 I/O83 P1 (io), 88 I/O84 P2 (io), 89 I/O85 P3 (io), 90 I/O86 P4 (io), 91 I/O87 P5 (io), 92 I/O88 P6 (io), 93 I/O89 P7 (io), 96 I/O90 N0 (io), 97 I/O91 N1 (io), 98 I/O92 N2 (io), 99 I/O93 N3 (io), 100 I/O94 N4 (io), 101 I/O95 N5 (io), 102 I/O96 N6 (io), 103 I/O97 N7 (io), 107 I/O98 O7 (io), 108 I/O99 O6 (io), 109 I/O100 O5 (io), 110 I/O101 O4 (io), 111 I/O102 O3 (io), 112 I/O103 O2 (io), 113 I/O104 O1 (io), 114 I/O105 O0 (io)
part D pins: 1 GND (power), 2 TDI (in), 11 VCC (power), 12 GND (power), 23 GND (power), 24 VCC (power), 30 GND (power), 40 GND (power), 41 VCC (power), 50 TMS (in), 51 TCK (in), 52 GND (power), 53 GND (power), 62 GND (power), 63 VCC (power), 74 CLK1 (in), 75 VCC (power), 76 GND (power), 81 GND (power), 82 VCC (power), 83 CLK2 (in), 94 VCC (power), 95 GND (power), 104 GND (power), 105 GND (power), 106 NC, 115 VCC (power), 116 GND (power), 127 GND (power), 128 VCC (power), 134 GND (power), 144 GND (power), 145 VCC (power), 154 NC, 155 TDO (out), 156 GND (power), 157 GND (power), 166 GND (power), 167 VCC (power), 178 CLK3 (in), 179 VCC (power), 180 GND (power), 185 GND (power), 186 VCC (power), 187 CLK0 (in), 198 VCC (power), 199 GND (power), 208 GND (power)

## M4A3-384/160-65YC
designator U?
High-Performance EE CMOS In-System Programmable Logic; Published: 17-Jul-2002; LatestRevisionDate: 13-Apr-2006; LatestRevisionNote: IPC-7351 Footprint Added.; DatasheetVersion: Feb-2001; PackageVersion: pkg_32, Aug-2005; PackageReference: PQFP208; Publisher: Altium Limited; PackageDescription: 208-Pin Plastic Quad Flat Pack (PQFP208); Code_JEDEC: MO-143-FAI; ComponentLink1Description: Manufacturer Link; ComponentLink1URL: http://www.latticesemi.com/products/mature/index.cfm; ComponentLink2Description: Datasheet; ComponentLink2URL: http://www.latticesemi.com/account/_download.cfm?AMID=1344
footprint PQFP208_N (Shrink QFP, 208-Leads, Body 28x28mm, Pitch 0.5mm, IPC Medium Density)
footprint PQFP208_L (Shrink QFP, 208-Leads, Body 28x28mm, Pitch 0.5mm, IPC High Density)
footprint PQFP208_M (Shrink QFP, 208-Leads, Body 28x28mm, Pitch 0.5mm, IPC Low Density)
3D model M4A3-PQFP208 (208-Pin Plastic Quad Flat Pack (PQFP208))
part A pins: 3 I/O18 C7 (io), 4 I/O19 C6 (io), 5 I/O20 C5 (io), 6 I/O21 C4 (io), 7 I/O22 C3 (io), 8 I/O23 C2 (io), 9 I/O24 C1 (io), 10 I/O25 C0 (io), 146 I/O130 XF0 (io), 147 I/O131 XF1 (io), 148 I/O132 XF2 (io), 149 I/O133 XF3 (io), 150 I/O134 XF4 (io), 151 I/O135 XF5 (io), 152 I/O136 XF6 (io), 153 I/O137 XF7 (io), 158 I/O138 XG7 (io), 159 I/O139 XG6 (io), 160 I/O140 XG5 (io), 161 I/O141 XG4 (io), 162 I/O142 XG3 (io), 163 I/O143 XG2 (io), 164 I/O144 XG1 (io), 165 I/O145 XG0 (io), 168 I/O146 XE7 (io), 169 I/O147 XE6 (io), 170 I/O148 XE5 (io), 171 I/O149 XE4 (io), 172 I/O150 XE3 (io), 173 I/O151 XE2 (io), 174 I/O152 XE1 (io), 175 I/O153 XE0 (io), 176 I/O154 XH7 (io), 177 I/O155 XH6 (io), 181 I/O156 XH4 (power), 182 I/O157 XH1 (power), 183 I/O158 A1 (power), 184 I/O159 A4 (power), 188 I/O0 A6 (io), 189 I/O1 A7 (io), 190 I/O2 D0 (io), 191 I/O3 D1 (io), 192 I/O4 D2 (io), 193 I/O5 D3 (io), 194 I/O6 D4 (io), 195 I/O7 D5 (io), 196 I/O8 D6 (io), 197 I/O9 D7 (io), 200 I/O10 B0 (io), 201 I/O11 B1 (io), 202 I/O12 B2 (io), 203 I/O13 B3 (io), 204 I/O14 B4 (io), 205 I/O15 B5 (io), 206 I/O16 B6 (io), 207 I/O17 B7 (io)
part B pins: 13 I/O26 F7 (io), 14 I/O27 F6 (io), 15 I/O28 F5 (io), 16 I/O29 F4 (io), 17 I/O30 F3 (io), 18 I/O31 F2 (io), 19 I/O32 F1 (io), 20 I/O33 F0 (io), 21 I/O34 E7 (io), 22 I/O35 E5 (io), 25 I/O36 E2 (io), 26 I/O37 E0 (io), 27 I/O38 H0 (io), 28 I/O39 H2 (io), 29 I/O40 H3 (io), 31 I/O41 H5 (io), 32 I/O42 G0 (io), 33 I/O43 G1 (io), 34 I/O44 G2 (io), 35 I/O45 G3 (io), 36 I/O46 G4 (io), 37 I/O47 G5 (io), 38 I/O48 G6 (io), 39 I/O49 G7 (io), 117 I/O106 XB7 (io), 118 I/O107 XB6 (io), 119 I/O108 XB5 (io), 120 I/O109 XB4 (io), 121 I/O110 XB3 (io), 122 I/O111 XB2 (io), 123 I/O112 XB1 (io), 124 I/O113 XB0 (io), 125 I/O114 XA7 (io), 126 I/O115 XA5 (io), 129 I/O116 XA2 (io), 130 I/O117 XA0 (io), 131 I/O118 XD0 (io), 132 I/O119 XD2 (io), 133 I/O120 XD3 (io), 135 I/O121 XD5 (io), 136 I/O122 XC0 (io), 137 I/O123 XC1 (io), 138 I/O124 XC2 (io), 139 I/O125 XC3 (io), 140 I/O126 XC4 (io), 141 I/O127 XC5 (io), 142 I/O128 XC6 (io), 143 I/O129 XC7 (io)
part C pins: 42 I/O50 J0 (io), 43 I/O51 J1 (io), 44 I/O52 J2 (io), 45 I/O53 J3 (io), 46 I/O54 J4 (io), 47 I/O55 J5 (io), 48 I/O56 J6 (io), 49 I/O57 J7 (io), 54 I/O58 K7 (io), 55 I/O59 K6 (io), 56 I/O60 K5 (io), 57 I/O61 K4 (io), 58 I/O62 K3 (io), 59 I/O63 K2 (io), 60 I/O64 K1 (io), 61 I/O65 K0 (io), 64 I/O66 I7 (io), 65 I/O67 I6 (io), 66 I/O68 I5 (io), 67 I/O69 I4 (io), 68 I/O70 I3 (io), 69 I/O71 I2 (io), 70 I/O72 I1 (io), 71 I/O73 I0 (io), 72 I/O74 L7 (io), 73 I/O75 L6 (io), 77 I/O76 L4 (io), 78 I/O77 L1 (io), 79 I/O78 M1 (io), 80 I/O79 M4 (io), 84 I/O80 M6 (io), 85 I/O81 M7 (io), 86 I/O82 P0 (io), 87 I/O83 P1 (io), 88 I/O84 P2 (io), 89 I/O85 P3 (io), 90 I/O86 P4 (io), 91 I/O87 P5 (io), 92 I/O88 P6 (io), 93 I/O89 P7 (io), 96 I/O90 N0 (io), 97 I/O91 N1 (io), 98 I/O92 N2 (io), 99 I/O93 N3 (io), 100 I/O94 N4 (io), 101 I/O95 N5 (io), 102 I/O96 N6 (io), 103 I/O97 N7 (io), 107 I/O98 O7 (io), 108 I/O99 O6 (io), 109 I/O100 O5 (io), 110 I/O101 O4 (io), 111 I/O102 O3 (io), 112 I/O103 O2 (io), 113 I/O104 O1 (io), 114 I/O105 O0 (io)
part D pins: 1 GND (power), 2 TDI (in), 11 VCC (power), 12 GND (power), 23 GND (power), 24 VCC (power), 30 GND (power), 40 GND (power), 41 VCC (power), 50 TMS (in), 51 TCK (in), 52 GND (power), 53 GND (power), 62 GND (power), 63 VCC (power), 74 CLK1 (in), 75 VCC (power), 76 GND (power), 81 GND (power), 82 VCC (power), 83 CLK2 (in), 94 VCC (power), 95 GND (power), 104 GND (power), 105 GND (power), 106 NC, 115 VCC (power), 116 GND (power), 127 GND (power), 128 VCC (power), 134 GND (power), 144 GND (power), 145 VCC (power), 154 NC, 155 TDO (out), 156 GND (power), 157 GND (power), 166 GND (power), 167 VCC (power), 178 CLK3 (in), 179 VCC (power), 180 GND (power), 185 GND (power), 186 VCC (power), 187 CLK0 (in), 198 VCC (power), 199 GND (power), 208 GND (power)

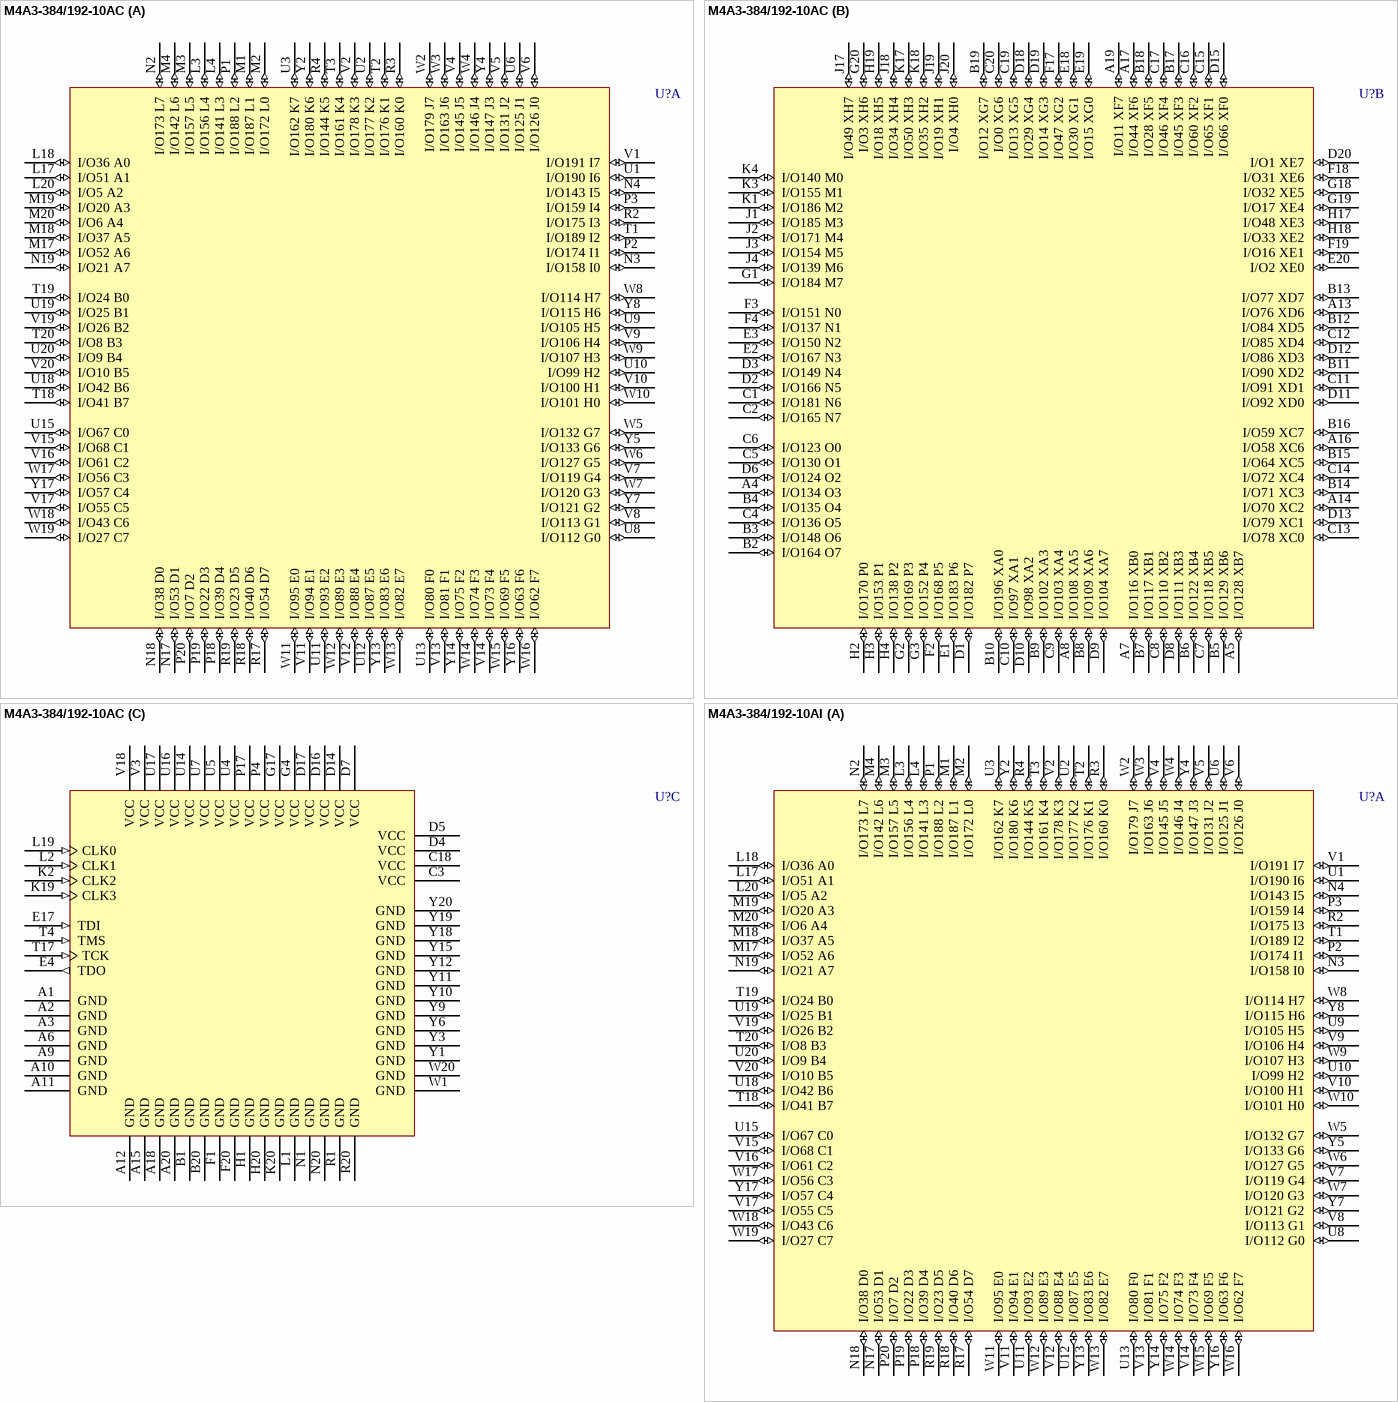
[diagram p79: symbols M4A3-384/192-10AC to M4A3-384/192-10AI]

## M4A3-384/192-10AC
designator U?
High-Performance EE CMOS In-System Programmable Logic; Published: 17-Jul-2002; LatestRevisionDate: 13-Apr-2006; LatestRevisionNote: IPC-7351 Footprint Added.; DatasheetVersion: Feb-2001; PackageVersion: pkg_32, Aug-2005; PackageReference: SBGA256; Publisher: Altium Limited; PackageDescription: 256-Ball Super Ball Grid Array (SBGA256); ComponentLink1Description: Manufacturer Link; ComponentLink1URL: http://www.latticesemi.com/products/mature/index.cfm; ComponentLink2Description: Datasheet; ComponentLink2URL: http://www.latticesemi.com/account/_download.cfm?AMID=1344
footprint SBGA256 (BGA, 256-Leads, Body 27x27mm, Pitch 1.27mm)
3D model M4A3-SBGA256 (256-Ball Super Ball Grid Array (SBGA256))
part A pins: L3 I/O156 L4 (io), L4 I/O141 L3 (io), L17 I/O51 A1 (io), L18 I/O36 A0 (io), L20 I/O5 A2 (io), M1 I/O187 L1 (io), M2 I/O172 L0 (io), M3 I/O157 L5 (io), M4 I/O142 L6 (io), M17 I/O52 A6 (io), M18 I/O37 A5 (io), M19 I/O20 A3 (io), M20 I/O6 A4 (io), N2 I/O173 L7 (io), N3 I/O158 I0 (io), N4 I/O143 I5 (io), N17 I/O53 D1 (io), N18 I/O38 D0 (io), N19 I/O21 A7 (io), P1 I/O188 L2 (io), P2 I/O174 I1 (io), P3 I/O159 I4 (io), P18 I/O39 D4 (io), P19 I/O22 D3 (io), P20 I/O7 D2 (io), R2 I/O175 I3 (io), R3 I/O160 K0 (io), R4 I/O144 K5 (io), R17 I/O54 D7 (io), R18 I/O40 D6 (io), R19 I/O23 D5 (io), T1 I/O189 I2 (io), T2 I/O176 K1 (io), T3 I/O161 K4 (io), T18 I/O41 B7 (io), T19 I/O24 B0 (io), T20 I/O8 B3 (io), U1 I/O190 I6 (io), U2 I/O177 K2 (io), U3 I/O162 K7 (io), U6 I/O125 J1 (io), U8 I/O112 G0 (io), U9 I/O105 H5 (io), U10 I/O99 H2 (io), U11 I/O93 E2 (io), U12 I/O87 E5 (io), U13 I/O80 F0 (io), U15 I/O67 C0 (io), U18 I/O42 B6 (io), U19 I/O25 B1 (io), U20 I/O9 B4 (io), V1 I/O191 I7 (io), V2 I/O178 K3 (io), V4 I/O145 J5 (io), V5 I/O131 J2 (io), V6 I/O126 J0 (io), V7 I/O119 G4 (io), V8 I/O113 G1 (io), V9 I/O106 H4 (io), V10 I/O100 H1 (io), V11 I/O94 E1 (io), V12 I/O88 E4 (io), V13 I/O81 F1 (io), V14 I/O73 F4 (io), V15 I/O68 C1 (io), V16 I/O61 C2 (io), V17 I/O55 C5 (io), V19 I/O26 B2 (io), V20 I/O10 B5 (io), W2 I/O179 J7 (io), W3 I/O163 J6 (io), W4 I/O146 J4 (io), W5 I/O132 G7 (io), W6 I/O127 G5 (io), W7 I/O120 G3 (io), W8 I/O114 H7 (io), W9 I/O107 H3 (io), W10 I/O101 H0 (io), W11 I/O95 E0 (io), W12 I/O89 E3 (io), W13 I/O82 E7 (io), W14 I/O74 F3 (io), W15 I/O69 F5 (io), W16 I/O62 F7 (io), W17 I/O56 C3 (io), W18 I/O43 C6 (io), W19 I/O27 C7 (io), Y2 I/O180 K6 (io), Y4 I/O147 J3 (io), Y5 I/O133 G6 (io), Y7 I/O121 G2 (io), Y8 I/O115 H6 (io), Y13 I/O83 E6 (io), Y14 I/O75 F2 (io), Y16 I/O63 F6 (io), Y17 I/O57 C4 (io)
part B pins: A4 I/O134 O3 (io), A5 I/O128 XB7 (io), A7 I/O116 XB0 (io), A8 I/O108 XA5 (io), A13 I/O76 XD6 (io), A14 I/O70 XC2 (io), A16 I/O58 XC6 (io), A17 I/O44 XF6 (io), A19 I/O11 XF7 (io), B2 I/O164 O7 (io), B3 I/O148 O6 (io), B4 I/O135 O4 (io), B5 I/O129 XB6 (io), B6 I/O122 XB4 (io), B7 I/O117 XB1 (io), B8 I/O109 XA6 (io), B9 I/O102 XA3 (io), B10 I/O196 XA0 (io), B11 I/O90 XD2 (io), B12 I/O84 XD5 (io), B13 I/O77 XD7 (io), B14 I/O71 XC3 (io), B15 I/O64 XC5 (io), B16 I/O59 XC7 (io), B17 I/O45 XF3 (io), B18 I/O28 XF5 (io), B19 I/O12 XG7 (io), C1 I/O181 N6 (io), C2 I/O165 N7 (io), C4 I/O136 O5 (io), C5 I/O130 O1 (io), C6 I/O123 O0 (io), C7 I/O118 XB5 (io), C8 I/O110 XB2 (io), C9 I/O103 XA4 (io), C10 I/O97 XA1 (io), C11 I/O91 XD1 (io), C12 I/O85 XD4 (io), C13 I/O78 XC0 (io), C14 I/O72 XC4 (io), C15 I/O65 XF1 (io), C16 I/O60 XF2 (io), C17 I/O46 XF4 (io), C19 I/O13 XG5 (io), C20 I/O0 XG6 (io), D1 I/O182 P7 (io), D2 I/O166 N5 (io), D3 I/O149 N4 (io), D6 I/O124 O2 (io), D8 I/O111 XB3 (io), D9 I/O104 XA7 (io), D10 I/O98 XA2 (io), D11 I/O92 XD0 (io), D12 I/O86 XD3 (io), D13 I/O79 XC1 (io), D15 I/O66 XF0 (io), D18 I/O29 XG4 (io), D19 I/O14 XG3 (io), D20 I/O1 XE7 (io), E1 I/O183 P6 (io), E2 I/O167 N3 (io), E3 I/O150 N2 (io), E18 I/O30 XG1 (io), E19 I/O15 XG0 (io), E20 I/O2 XE0 (io), F2 I/O168 P5 (io), F3 I/O151 N0 (io), F4 I/O137 N1 (io), F17 I/O47 XG2 (io), F18 I/O31 XE6 (io), F19 I/O16 XE1 (io), G1 I/O184 M7 (io), G2 I/O169 P3 (io), G3 I/O152 P4 (io), G18 I/O32 XE5 (io), G19 I/O17 XE4 (io), G20 I/O3 XH6 (io), H2 I/O170 P0 (io), H3 I/O153 P1 (io), H4 I/O138 P2 (io), H17 I/O48 XE3 (io), H18 I/O33 XE2 (io), H19 I/O18 XH5 (io), J1 I/O185 M3 (io), J2 I/O171 M4 (io), J3 I/O154 M5 (io), J4 I/O139 M6 (io), J17 I/O49 XH7 (io), J18 I/O34 XH4 (io), J19 I/O19 XH1 (io), J20 I/O4 XH0 (io), K1 I/O186 M2 (io), K3 I/O155 M1 (io), K4 I/O140 M0 (io), K17 I/O50 XH3 (io), K18 I/O35 XH2 (io)
part C pins: A1 GND (power), A2 GND (power), A3 GND (power), A6 GND (power), A9 GND (power), A10 GND (power), A11 GND (power), A12 GND (power), A15 GND (power), A18 GND (power), A20 GND (power), B1 GND (power), B20 GND (power), C3 VCC (power), C18 VCC (power), D4 VCC (power), D5 VCC (power), D7 VCC (power), D14 VCC (power), D16 VCC (power), D17 VCC (power), E4 TDO (out), E17 TDI (in), F1 GND (power), F20 GND (power), G4 VCC (power), G17 VCC (power), H1 GND (power), H20 GND (power), K2 CLK2 (in), K19 CLK3 (in), K20 GND (power), L1 GND (power), L2 CLK1 (in), L19 CLK0 (in), N1 GND (power), N20 GND (power), P4 VCC (power), P17 VCC (power), R1 GND (power), R20 GND (power), T4 TMS (in), T17 TCK (in), U4 VCC (power), U5 VCC (power), U7 VCC (power), U14 VCC (power), U16 VCC (power), U17 VCC (power), V3 VCC (power), V18 VCC (power), W1 GND (power), W20 GND (power), Y1 GND (power), Y3 GND (power), Y6 GND (power), Y9 GND (power), Y10 GND (power), Y11 GND (power), Y12 GND (power), Y15 GND (power), Y18 GND (power), Y19 GND (power), Y20 GND (power)

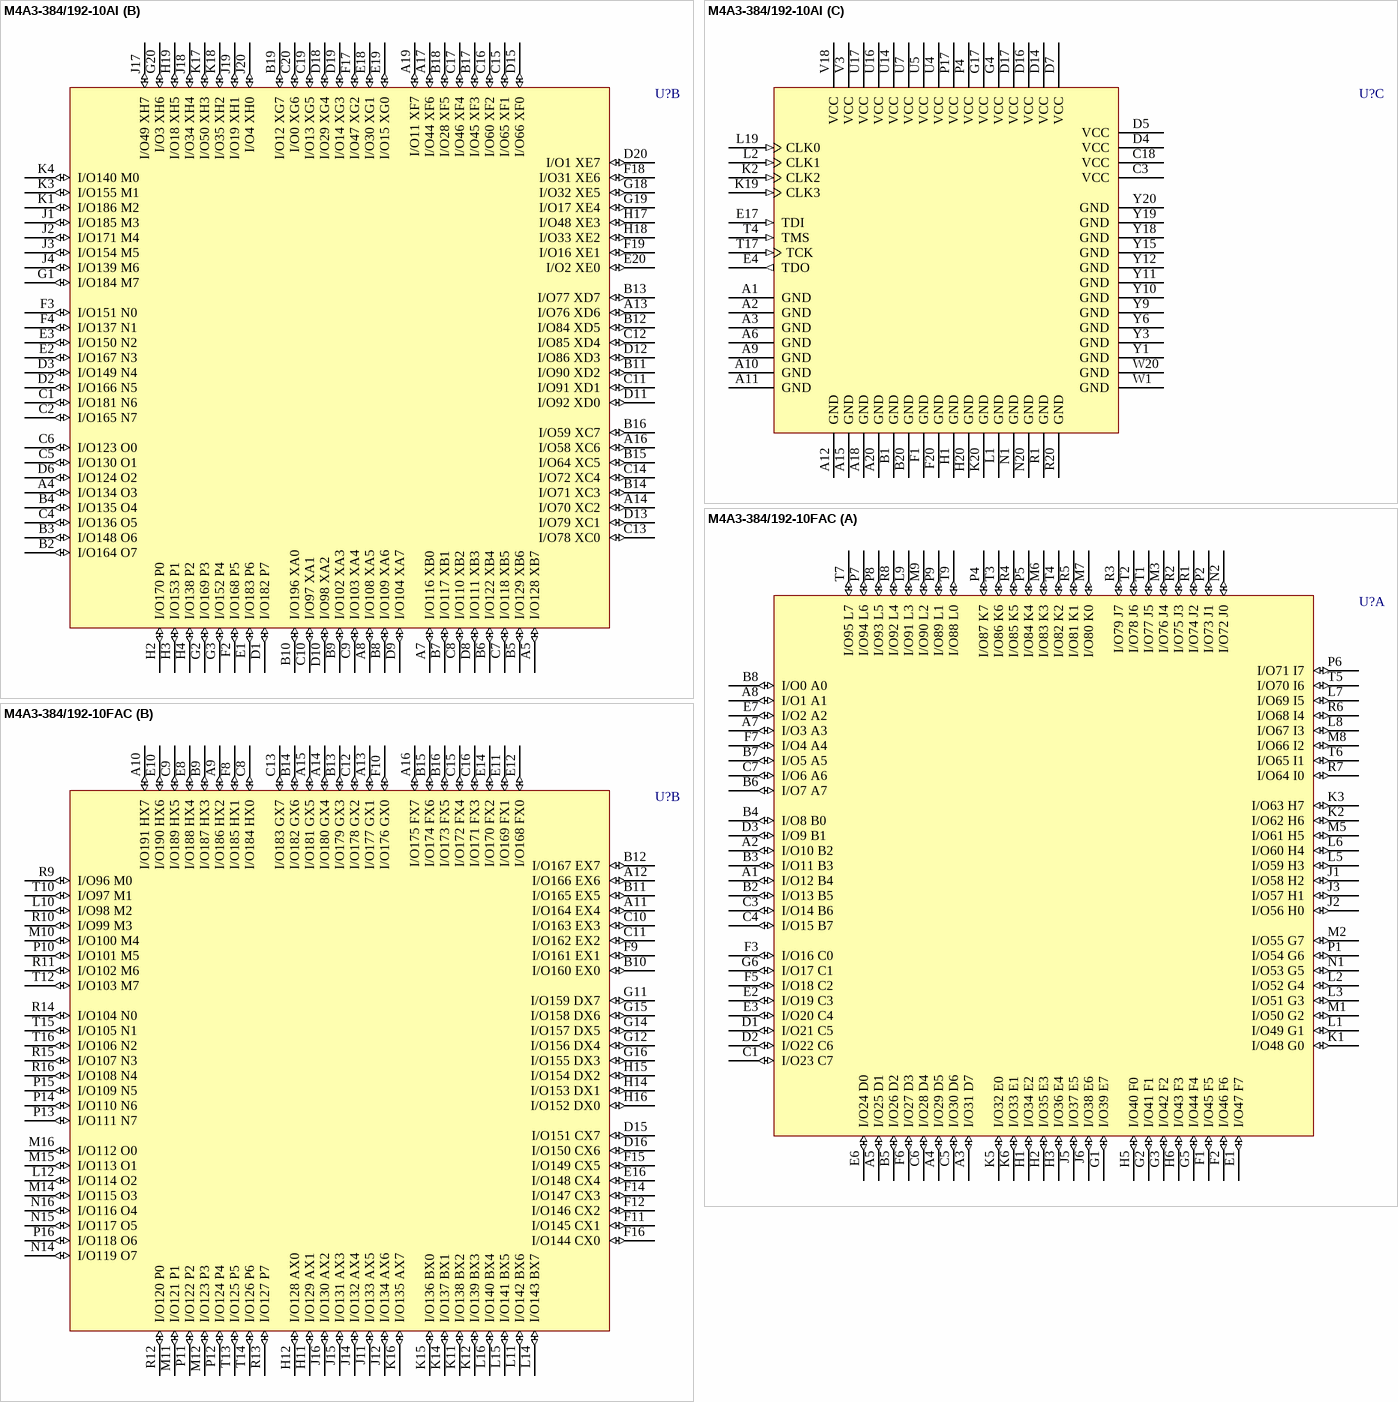
[diagram p80: symbols M4A3-384/192-10AI to M4A3-384/192-10FAC]

## M4A3-384/192-10AI
designator U?
High-Performance EE CMOS In-System Programmable Logic; Published: 17-Jul-2002; LatestRevisionDate: 13-Apr-2006; LatestRevisionNote: IPC-7351 Footprint Added.; DatasheetVersion: Feb-2001; PackageVersion: pkg_32, Aug-2005; PackageReference: SBGA256; Publisher: Altium Limited; PackageDescription: 256-Ball Super Ball Grid Array (SBGA256); ComponentLink1Description: Manufacturer Link; ComponentLink1URL: http://www.latticesemi.com/products/mature/index.cfm; ComponentLink2Description: Datasheet; ComponentLink2URL: http://www.latticesemi.com/account/_download.cfm?AMID=1344
footprint SBGA256 (BGA, 256-Leads, Body 27x27mm, Pitch 1.27mm)
3D model M4A3-SBGA256 (256-Ball Super Ball Grid Array (SBGA256))
part A pins: L3 I/O156 L4 (io), L4 I/O141 L3 (io), L17 I/O51 A1 (io), L18 I/O36 A0 (io), L20 I/O5 A2 (io), M1 I/O187 L1 (io), M2 I/O172 L0 (io), M3 I/O157 L5 (io), M4 I/O142 L6 (io), M17 I/O52 A6 (io), M18 I/O37 A5 (io), M19 I/O20 A3 (io), M20 I/O6 A4 (io), N2 I/O173 L7 (io), N3 I/O158 I0 (io), N4 I/O143 I5 (io), N17 I/O53 D1 (io), N18 I/O38 D0 (io), N19 I/O21 A7 (io), P1 I/O188 L2 (io), P2 I/O174 I1 (io), P3 I/O159 I4 (io), P18 I/O39 D4 (io), P19 I/O22 D3 (io), P20 I/O7 D2 (io), R2 I/O175 I3 (io), R3 I/O160 K0 (io), R4 I/O144 K5 (io), R17 I/O54 D7 (io), R18 I/O40 D6 (io), R19 I/O23 D5 (io), T1 I/O189 I2 (io), T2 I/O176 K1 (io), T3 I/O161 K4 (io), T18 I/O41 B7 (io), T19 I/O24 B0 (io), T20 I/O8 B3 (io), U1 I/O190 I6 (io), U2 I/O177 K2 (io), U3 I/O162 K7 (io), U6 I/O125 J1 (io), U8 I/O112 G0 (io), U9 I/O105 H5 (io), U10 I/O99 H2 (io), U11 I/O93 E2 (io), U12 I/O87 E5 (io), U13 I/O80 F0 (io), U15 I/O67 C0 (io), U18 I/O42 B6 (io), U19 I/O25 B1 (io), U20 I/O9 B4 (io), V1 I/O191 I7 (io), V2 I/O178 K3 (io), V4 I/O145 J5 (io), V5 I/O131 J2 (io), V6 I/O126 J0 (io), V7 I/O119 G4 (io), V8 I/O113 G1 (io), V9 I/O106 H4 (io), V10 I/O100 H1 (io), V11 I/O94 E1 (io), V12 I/O88 E4 (io), V13 I/O81 F1 (io), V14 I/O73 F4 (io), V15 I/O68 C1 (io), V16 I/O61 C2 (io), V17 I/O55 C5 (io), V19 I/O26 B2 (io), V20 I/O10 B5 (io), W2 I/O179 J7 (io), W3 I/O163 J6 (io), W4 I/O146 J4 (io), W5 I/O132 G7 (io), W6 I/O127 G5 (io), W7 I/O120 G3 (io), W8 I/O114 H7 (io), W9 I/O107 H3 (io), W10 I/O101 H0 (io), W11 I/O95 E0 (io), W12 I/O89 E3 (io), W13 I/O82 E7 (io), W14 I/O74 F3 (io), W15 I/O69 F5 (io), W16 I/O62 F7 (io), W17 I/O56 C3 (io), W18 I/O43 C6 (io), W19 I/O27 C7 (io), Y2 I/O180 K6 (io), Y4 I/O147 J3 (io), Y5 I/O133 G6 (io), Y7 I/O121 G2 (io), Y8 I/O115 H6 (io), Y13 I/O83 E6 (io), Y14 I/O75 F2 (io), Y16 I/O63 F6 (io), Y17 I/O57 C4 (io)
part B pins: A4 I/O134 O3 (io), A5 I/O128 XB7 (io), A7 I/O116 XB0 (io), A8 I/O108 XA5 (io), A13 I/O76 XD6 (io), A14 I/O70 XC2 (io), A16 I/O58 XC6 (io), A17 I/O44 XF6 (io), A19 I/O11 XF7 (io), B2 I/O164 O7 (io), B3 I/O148 O6 (io), B4 I/O135 O4 (io), B5 I/O129 XB6 (io), B6 I/O122 XB4 (io), B7 I/O117 XB1 (io), B8 I/O109 XA6 (io), B9 I/O102 XA3 (io), B10 I/O196 XA0 (io), B11 I/O90 XD2 (io), B12 I/O84 XD5 (io), B13 I/O77 XD7 (io), B14 I/O71 XC3 (io), B15 I/O64 XC5 (io), B16 I/O59 XC7 (io), B17 I/O45 XF3 (io), B18 I/O28 XF5 (io), B19 I/O12 XG7 (io), C1 I/O181 N6 (io), C2 I/O165 N7 (io), C4 I/O136 O5 (io), C5 I/O130 O1 (io), C6 I/O123 O0 (io), C7 I/O118 XB5 (io), C8 I/O110 XB2 (io), C9 I/O103 XA4 (io), C10 I/O97 XA1 (io), C11 I/O91 XD1 (io), C12 I/O85 XD4 (io), C13 I/O78 XC0 (io), C14 I/O72 XC4 (io), C15 I/O65 XF1 (io), C16 I/O60 XF2 (io), C17 I/O46 XF4 (io), C19 I/O13 XG5 (io), C20 I/O0 XG6 (io), D1 I/O182 P7 (io), D2 I/O166 N5 (io), D3 I/O149 N4 (io), D6 I/O124 O2 (io), D8 I/O111 XB3 (io), D9 I/O104 XA7 (io), D10 I/O98 XA2 (io), D11 I/O92 XD0 (io), D12 I/O86 XD3 (io), D13 I/O79 XC1 (io), D15 I/O66 XF0 (io), D18 I/O29 XG4 (io), D19 I/O14 XG3 (io), D20 I/O1 XE7 (io), E1 I/O183 P6 (io), E2 I/O167 N3 (io), E3 I/O150 N2 (io), E18 I/O30 XG1 (io), E19 I/O15 XG0 (io), E20 I/O2 XE0 (io), F2 I/O168 P5 (io), F3 I/O151 N0 (io), F4 I/O137 N1 (io), F17 I/O47 XG2 (io), F18 I/O31 XE6 (io), F19 I/O16 XE1 (io), G1 I/O184 M7 (io), G2 I/O169 P3 (io), G3 I/O152 P4 (io), G18 I/O32 XE5 (io), G19 I/O17 XE4 (io), G20 I/O3 XH6 (io), H2 I/O170 P0 (io), H3 I/O153 P1 (io), H4 I/O138 P2 (io), H17 I/O48 XE3 (io), H18 I/O33 XE2 (io), H19 I/O18 XH5 (io), J1 I/O185 M3 (io), J2 I/O171 M4 (io), J3 I/O154 M5 (io), J4 I/O139 M6 (io), J17 I/O49 XH7 (io), J18 I/O34 XH4 (io), J19 I/O19 XH1 (io), J20 I/O4 XH0 (io), K1 I/O186 M2 (io), K3 I/O155 M1 (io), K4 I/O140 M0 (io), K17 I/O50 XH3 (io), K18 I/O35 XH2 (io)
part C pins: A1 GND (power), A2 GND (power), A3 GND (power), A6 GND (power), A9 GND (power), A10 GND (power), A11 GND (power), A12 GND (power), A15 GND (power), A18 GND (power), A20 GND (power), B1 GND (power), B20 GND (power), C3 VCC (power), C18 VCC (power), D4 VCC (power), D5 VCC (power), D7 VCC (power), D14 VCC (power), D16 VCC (power), D17 VCC (power), E4 TDO (out), E17 TDI (in), F1 GND (power), F20 GND (power), G4 VCC (power), G17 VCC (power), H1 GND (power), H20 GND (power), K2 CLK2 (in), K19 CLK3 (in), K20 GND (power), L1 GND (power), L2 CLK1 (in), L19 CLK0 (in), N1 GND (power), N20 GND (power), P4 VCC (power), P17 VCC (power), R1 GND (power), R20 GND (power), T4 TMS (in), T17 TCK (in), U4 VCC (power), U5 VCC (power), U7 VCC (power), U14 VCC (power), U16 VCC (power), U17 VCC (power), V3 VCC (power), V18 VCC (power), W1 GND (power), W20 GND (power), Y1 GND (power), Y3 GND (power), Y6 GND (power), Y9 GND (power), Y10 GND (power), Y11 GND (power), Y12 GND (power), Y15 GND (power), Y18 GND (power), Y19 GND (power), Y20 GND (power)

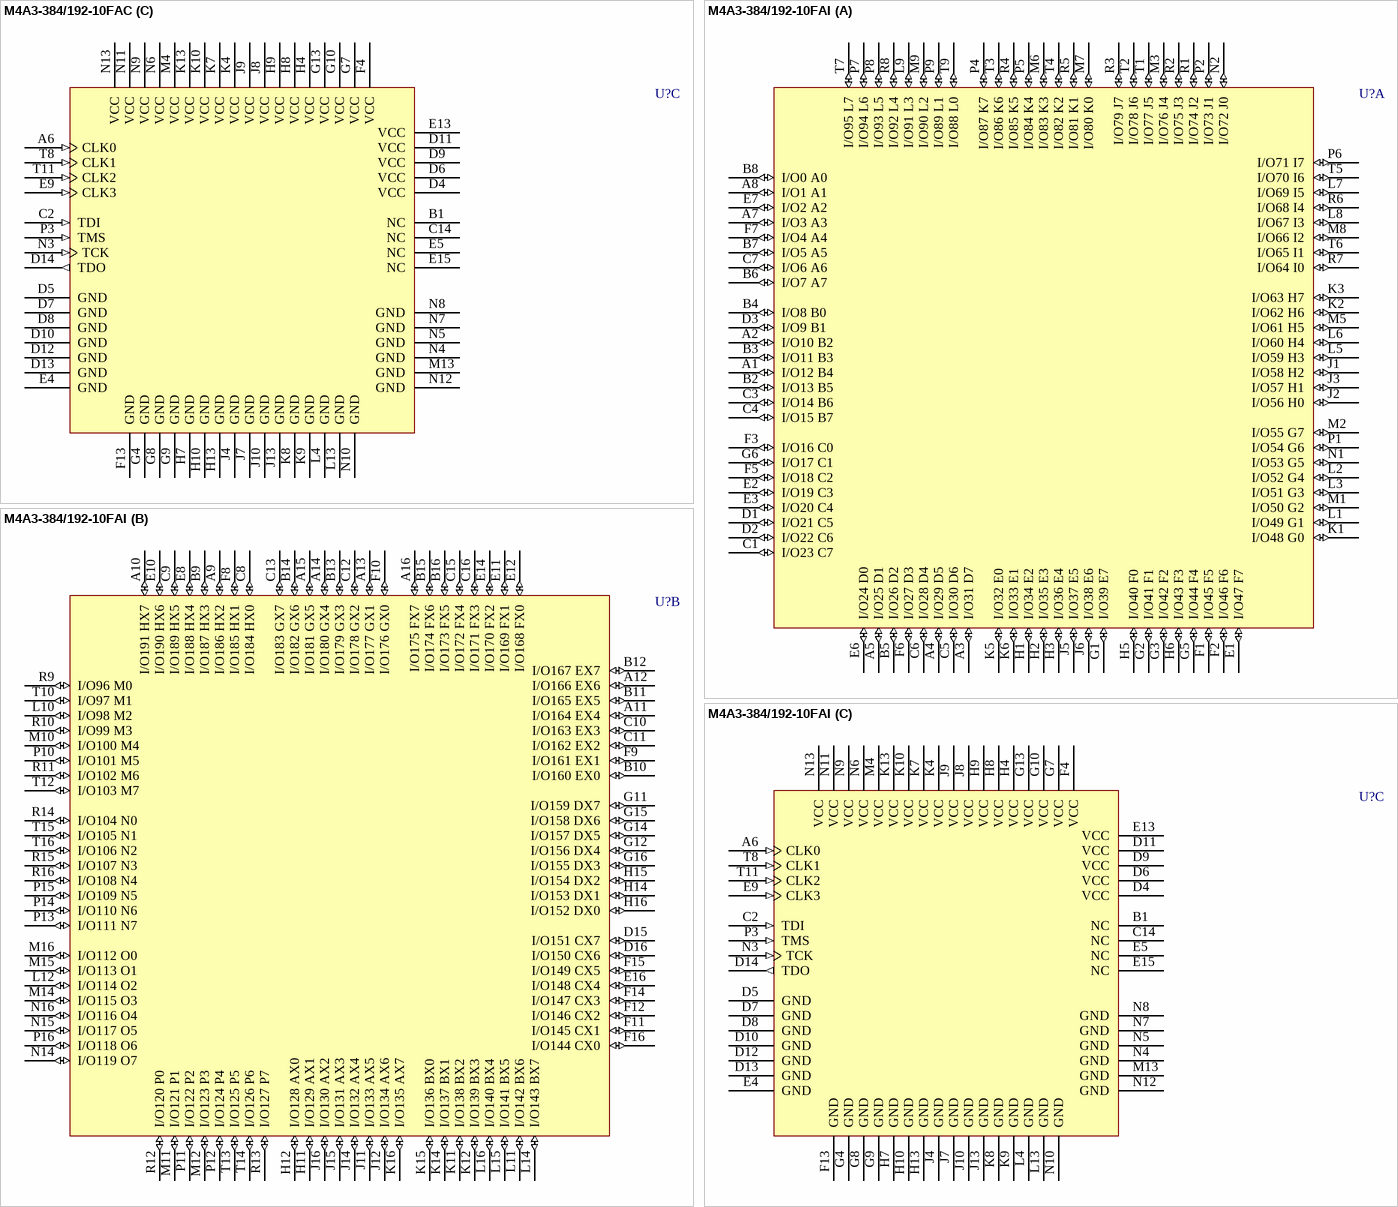
[diagram p81: symbols M4A3-384/192-10FAC to M4A3-384/192-10FAI]